# Altium integrated library Renesas Microprocessor SuperH.IntLib: 433 symbols (part 3 of 62)
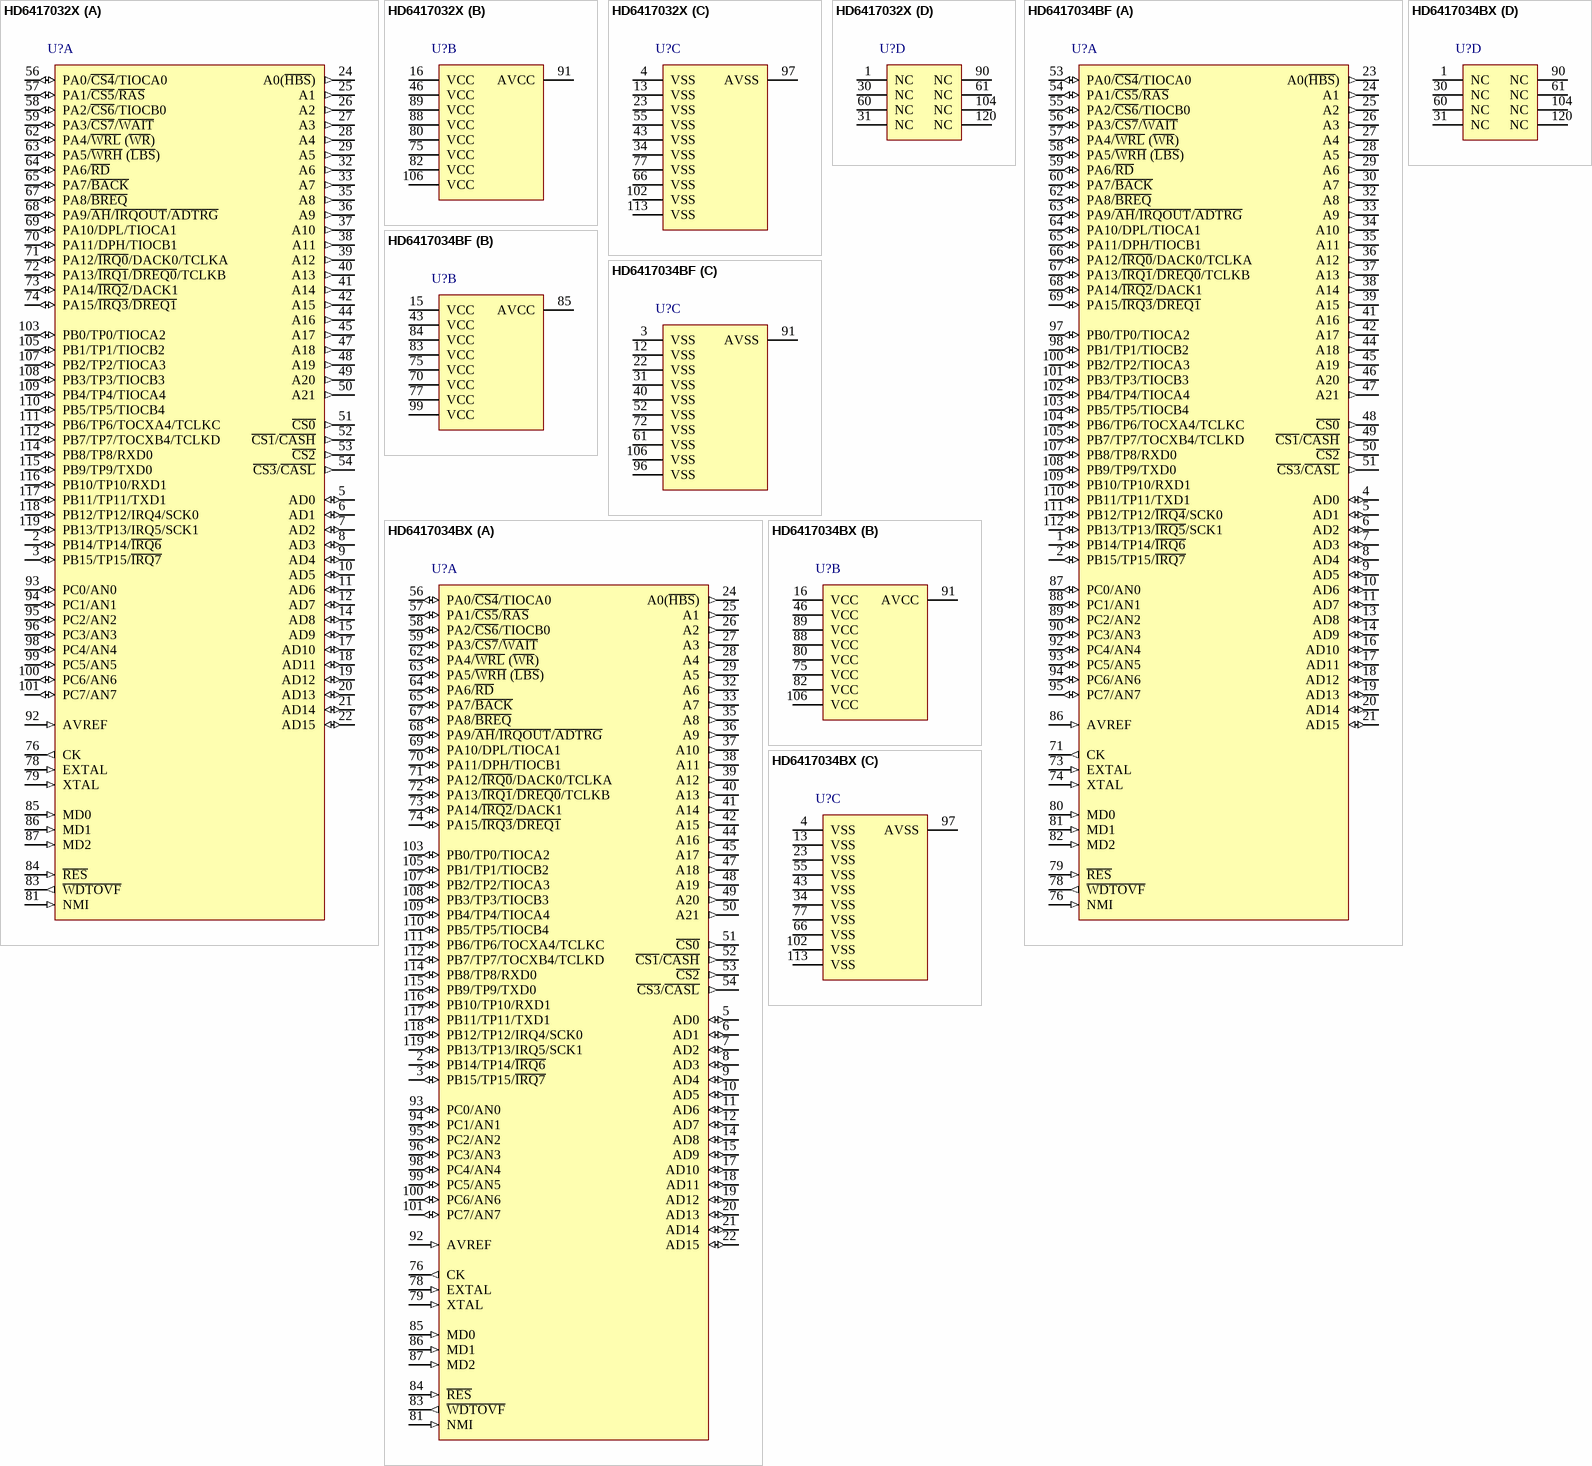
[diagram p280: symbols HD6417032X to HD6417034BX]

## HD6417034BX
designator U?
32-Bit RISC Microcomputer, SH7030 Series, SH-1 core, 20MHz, 4K RAM, PTQP0120LA-A (TFP-120) Package; Published: 28-Aug-2009; DatasheetVersion: Rev.7.00, Jan-2006; PackageVersion: Sep-2005; PackageReference: PTQP0120LA-A; Publisher: Altium Limited; PackageDescription: 120-Pin Plastic Thin QFP, 14 x 14 x 1.0 mm Body, 0.4 mm Pitch; Code_JEITA: P-TQFP120-14x14-0.40; ComponentLink1Description: Manufacturer Link; ComponentLink1URL: http://www.renesas.com/fmwk.jsp?cnt=sh7032_root.jsp&fp=/products/mpumcu/superh_family/sh7030_series/sh7032_group/; ComponentLink2Description: Datasheet; ComponentLink2URL: http://documentation.renesas.com/eng/products/mpumcu/rej09b0272_7032hm.pdf; ComponentLink3Description: Packaging Specification; ComponentLink3URL: http://sg.renesas.com/media/products/common_info/package/pdf/ic/code/ptqp0120la_a.pdf
footprint PTQP0120LA-A_N (Thin QFP, 120-Leads, Body 14x14mm, Pitch 0.4mm, IPC Medium Density)
footprint PTQP0120LA-A_L (Thin QFP, 120-Leads, Body 14x14mm, Pitch 0.4mm, IPC High Density)
footprint PTQP0120LA-A_M (Thin QFP, 120-Leads, Body 14x14mm, Pitch 0.4mm, IPC Low Density)
part A pins: 2 PB14/TP14/~{IRQ6} (io), 3 PB15/TP15/~{IRQ7} (io), 5 AD0 (io), 6 AD1 (io), 7 AD2 (io), 8 AD3 (io), 9 AD4 (io), 10 AD5 (io), 11 AD6 (io), 12 AD7 (io), 14 AD8 (io), 15 AD9 (io), 17 AD10 (io), 18 AD11 (io), 19 AD12 (io), 20 AD13 (io), 21 AD14 (io), 22 AD15 (io), 24 A0(~{HBS}) (out), 25 A1 (out), 26 A2 (out), 27 A3 (out), 28 A4 (out), 29 A5 (out), 32 A6 (out), 33 A7 (out), 35 A8 (out), 36 A9 (out), 37 A10 (out), 38 A11 (out), 39 A12 (out), 40 A13 (out), 41 A14 (out), 42 A15 (out), 44 A16 (out), 45 A17 (out), 47 A18 (out), 48 A19 (out), 49 A20 (out), 50 A21 (out), 51 ~{CS0} (out), 52 ~{CS1}/~{CASH} (out), 53 ~{CS2} (out), 54 ~{CS3}/~{CASL} (out), 56 PA0/~{CS4}/TIOCA0 (io), 57 PA1/~{CS5}/~{RAS} (io), 58 PA2/~{CS6}/TIOCB0 (io), 59 PA3/~{CS7}/~{WAIT} (io), 62 PA4/~{WRL} (~{WR}) (io), 63 PA5/~{WRH} (~{LBS}) (io), 64 PA6/~{RD} (io), 65 PA7/~{BACK} (io), 67 PA8/~{BREQ} (io), 68 PA9/~{AH}/~{IRQOUT}/~{ADTRG} (io), 69 PA10/DPL/TIOCA1 (io), 70 PA11/DPH/TIOCB1 (io), 71 PA12/~{IRQ0}/DACK0/TCLKA (io), 72 PA13/~{IRQ1}/~{DREQ0}/TCLKB (io), 73 PA14/~{IRQ2}/DACK1 (io), 74 PA15/~{IRQ3}/~{DREQ1} (io), 76 CK (out), 78 EXTAL (in), 79 XTAL (in), 81 NMI (in), 83 ~{WDTOVF} (out), 84 ~{RES} (in), 85 MD0 (in), 86 MD1 (in), 87 MD2 (in), 92 AVREF (in), 93 PC0/AN0 (io), 94 PC1/AN1 (io), 95 PC2/AN2 (io), 96 PC3/AN3 (io), 98 PC4/AN4 (io), 99 PC5/AN5 (io), 100 PC6/AN6 (io), 101 PC7/AN7 (io), 103 PB0/TP0/TIOCA2 (io), 105 PB1/TP1/TIOCB2 (io), 107 PB2/TP2/TIOCA3 (io), 108 PB3/TP3/TIOCB3 (io), 109 PB4/TP4/TIOCA4 (io), 110 PB5/TP5/TIOCB4 (io), 111 PB6/TP6/TOCXA4/TCLKC (io), 112 PB7/TP7/TOCXB4/TCLKD (io), 114 PB8/TP8/RXD0 (io), 115 PB9/TP9/TXD0 (io), 116 PB10/TP10/RXD1 (io), 117 PB11/TP11/TXD1 (io), 118 PB12/TP12/IRQ4/SCK0 (io), 119 PB13/TP13/IRQ5/SCK1 (io)
part B pins: 16 VCC (power), 46 VCC (power), 75 VCC (power), 80 VCC (power), 82 VCC (power), 88 VCC (power), 89 VCC (power), 91 AVCC (power), 106 VCC (power)
part C pins: 4 VSS (power), 13 VSS (power), 23 VSS (power), 34 VSS (power), 43 VSS (power), 55 VSS (power), 66 VSS (power), 77 VSS (power), 97 AVSS (power), 102 VSS (power), 113 VSS (power)
part D pins: 1 NC, 30 NC, 31 NC, 60 NC, 61 NC, 90 NC, 104 NC, 120 NC

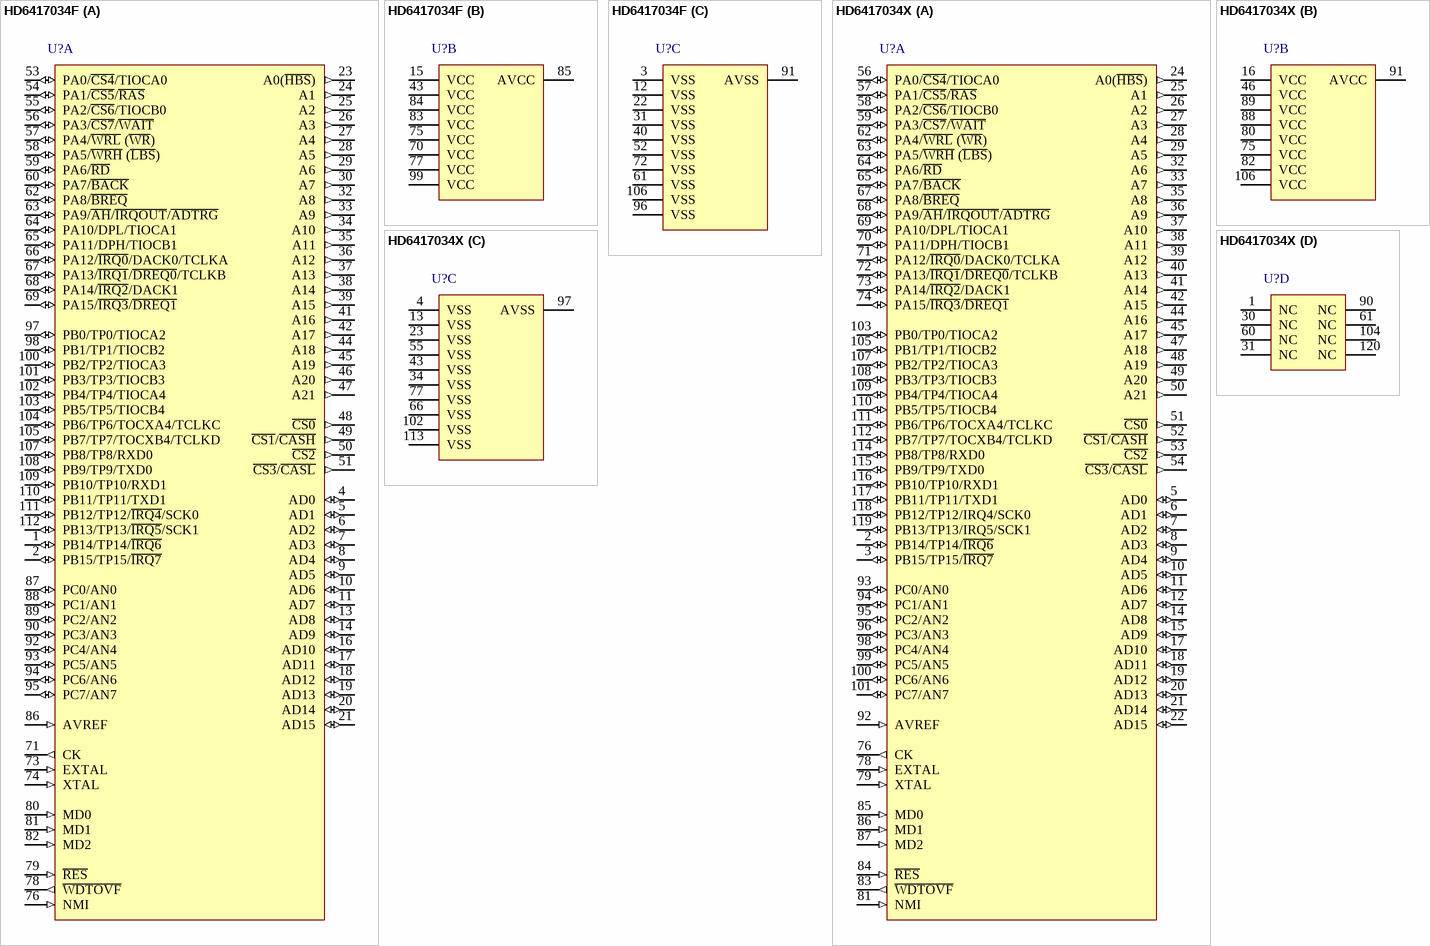
[diagram p7: symbols HD6417034F to HD6417034X]

## HD6417034F
designator U?
32-Bit RISC Microcomputer, SH7030 Series, SH-1 core, 20MHz, 4K RAM, PRQP0112JA-A (FP-112) Package; Published: 28-Aug-2009; DatasheetVersion: Rev.7.00, Jan-2006; PackageVersion: Sep-2005; PackageReference: PRQP0112JA-A; Publisher: Altium Limited; PackageDescription: 112-Pin Plastic Quad Flat Pack, 20 x 20 x 2.7 mm Body, 0.65 mm Pitch; Code_JEITA: P-QFP112-20x20-0.65; ComponentLink1Description: Manufacturer Link; ComponentLink1URL: http://www.renesas.com/fmwk.jsp?cnt=sh7032_root.jsp&fp=/products/mpumcu/superh_family/sh7030_series/sh7032_group/; ComponentLink2Description: Datasheet; ComponentLink2URL: http://documentation.renesas.com/eng/products/mpumcu/rej09b0272_7032hm.pdf; ComponentLink3Description: Packaging Specification; ComponentLink3URL: http://sg.renesas.com/media/products/common_info/package/pdf/ic/code/prqp0112ja_a.pdf
footprint PRQP0112JA-A_N (QFP, 112-Leads, Body 20x20mm, Pitch 0.65mm, IPC Medium Density)
footprint PRQP0112JA-A_L (QFP, 112-Leads, Body 20x20mm, Pitch 0.65mm, IPC High Density)
footprint PRQP0112JA-A_M (QFP, 112-Leads, Body 20x20mm, Pitch 0.65mm, IPC Low Density)
part A pins: 1 PB14/TP14/~{IRQ6} (io), 2 PB15/TP15/~{IRQ7} (io), 4 AD0 (io), 5 AD1 (io), 6 AD2 (io), 7 AD3 (io), 8 AD4 (io), 9 AD5 (io), 10 AD6 (io), 11 AD7 (io), 13 AD8 (io), 14 AD9 (io), 16 AD10 (io), 17 AD11 (io), 18 AD12 (io), 19 AD13 (io), 20 AD14 (io), 21 AD15 (io), 23 A0(~{HBS}) (out), 24 A1 (out), 25 A2 (out), 26 A3 (out), 27 A4 (out), 28 A5 (out), 29 A6 (out), 30 A7 (out), 32 A8 (out), 33 A9 (out), 34 A10 (out), 35 A11 (out), 36 A12 (out), 37 A13 (out), 38 A14 (out), 39 A15 (out), 41 A16 (out), 42 A17 (out), 44 A18 (out), 45 A19 (out), 46 A20 (out), 47 A21 (out), 48 ~{CS0} (out), 49 ~{CS1}/~{CASH} (out), 50 ~{CS2} (out), 51 ~{CS3}/~{CASL} (out), 53 PA0/~{CS4}/TIOCA0 (io), 54 PA1/~{CS5}/~{RAS} (io), 55 PA2/~{CS6}/TIOCB0 (io), 56 PA3/~{CS7}/~{WAIT} (io), 57 PA4/~{WRL} (~{WR}) (io), 58 PA5/~{WRH} (~{LBS}) (io), 59 PA6/~{RD} (io), 60 PA7/~{BACK} (io), 62 PA8/~{BREQ} (io), 63 PA9/~{AH}/~{IRQOUT}/~{ADTRG} (io), 64 PA10/DPL/TIOCA1 (io), 65 PA11/DPH/TIOCB1 (io), 66 PA12/~{IRQ0}/DACK0/TCLKA (io), 67 PA13/~{IRQ1}/~{DREQ0}/TCLKB (io), 68 PA14/~{IRQ2}/DACK1 (io), 69 PA15/~{IRQ3}/~{DREQ1} (io), 71 CK (out), 73 EXTAL (in), 74 XTAL (in), 76 NMI (in), 78 ~{WDTOVF} (out), 79 ~{RES} (in), 80 MD0 (in), 81 MD1 (in), 82 MD2 (in), 86 AVREF (in), 87 PC0/AN0 (io), 88 PC1/AN1 (io), 89 PC2/AN2 (io), 90 PC3/AN3 (io), 92 PC4/AN4 (io), 93 PC5/AN5 (io), 94 PC6/AN6 (io), 95 PC7/AN7 (io), 97 PB0/TP0/TIOCA2 (io), 98 PB1/TP1/TIOCB2 (io), 100 PB2/TP2/TIOCA3 (io), 101 PB3/TP3/TIOCB3 (io), 102 PB4/TP4/TIOCA4 (io), 103 PB5/TP5/TIOCB4 (io), 104 PB6/TP6/TOCXA4/TCLKC (io), 105 PB7/TP7/TOCXB4/TCLKD (io), 107 PB8/TP8/RXD0 (io), 108 PB9/TP9/TXD0 (io), 109 PB10/TP10/RXD1 (io), 110 PB11/TP11/TXD1 (io), 111 PB12/TP12/~{IRQ4}/SCK0 (io), 112 PB13/TP13/~{IRQ5}/SCK1 (io)
part B pins: 15 VCC (power), 43 VCC (power), 70 VCC (power), 75 VCC (power), 77 VCC (power), 83 VCC (power), 84 VCC (power), 85 AVCC (power), 99 VCC (power)
part C pins: 3 VSS (power), 12 VSS (power), 22 VSS (power), 31 VSS (power), 40 VSS (power), 52 VSS (power), 61 VSS (power), 72 VSS (power), 91 AVSS (power), 96 VSS (power), 106 VSS (power)

## HD6417034X
designator U?
32-Bit RISC Microcomputer, SH7030 Series, SH-1 core, 20MHz, 4K RAM, PTQP0120LA-A (TFP-120) Package; Published: 28-Aug-2009; DatasheetVersion: Rev.7.00, Jan-2006; PackageVersion: Sep-2005; PackageReference: PTQP0120LA-A; Publisher: Altium Limited; PackageDescription: 120-Pin Plastic Thin QFP, 14 x 14 x 1.0 mm Body, 0.4 mm Pitch; Code_JEITA: P-TQFP120-14x14-0.40; ComponentLink1Description: Manufacturer Link; ComponentLink1URL: http://www.renesas.com/fmwk.jsp?cnt=sh7032_root.jsp&fp=/products/mpumcu/superh_family/sh7030_series/sh7032_group/; ComponentLink2Description: Datasheet; ComponentLink2URL: http://documentation.renesas.com/eng/products/mpumcu/rej09b0272_7032hm.pdf; ComponentLink3Description: Packaging Specification; ComponentLink3URL: http://sg.renesas.com/media/products/common_info/package/pdf/ic/code/ptqp0120la_a.pdf
footprint PTQP0120LA-A_N (Thin QFP, 120-Leads, Body 14x14mm, Pitch 0.4mm, IPC Medium Density)
footprint PTQP0120LA-A_L (Thin QFP, 120-Leads, Body 14x14mm, Pitch 0.4mm, IPC High Density)
footprint PTQP0120LA-A_M (Thin QFP, 120-Leads, Body 14x14mm, Pitch 0.4mm, IPC Low Density)
part A pins: 2 PB14/TP14/~{IRQ6} (io), 3 PB15/TP15/~{IRQ7} (io), 5 AD0 (io), 6 AD1 (io), 7 AD2 (io), 8 AD3 (io), 9 AD4 (io), 10 AD5 (io), 11 AD6 (io), 12 AD7 (io), 14 AD8 (io), 15 AD9 (io), 17 AD10 (io), 18 AD11 (io), 19 AD12 (io), 20 AD13 (io), 21 AD14 (io), 22 AD15 (io), 24 A0(~{HBS}) (out), 25 A1 (out), 26 A2 (out), 27 A3 (out), 28 A4 (out), 29 A5 (out), 32 A6 (out), 33 A7 (out), 35 A8 (out), 36 A9 (out), 37 A10 (out), 38 A11 (out), 39 A12 (out), 40 A13 (out), 41 A14 (out), 42 A15 (out), 44 A16 (out), 45 A17 (out), 47 A18 (out), 48 A19 (out), 49 A20 (out), 50 A21 (out), 51 ~{CS0} (out), 52 ~{CS1}/~{CASH} (out), 53 ~{CS2} (out), 54 ~{CS3}/~{CASL} (out), 56 PA0/~{CS4}/TIOCA0 (io), 57 PA1/~{CS5}/~{RAS} (io), 58 PA2/~{CS6}/TIOCB0 (io), 59 PA3/~{CS7}/~{WAIT} (io), 62 PA4/~{WRL} (~{WR}) (io), 63 PA5/~{WRH} (~{LBS}) (io), 64 PA6/~{RD} (io), 65 PA7/~{BACK} (io), 67 PA8/~{BREQ} (io), 68 PA9/~{AH}/~{IRQOUT}/~{ADTRG} (io), 69 PA10/DPL/TIOCA1 (io), 70 PA11/DPH/TIOCB1 (io), 71 PA12/~{IRQ0}/DACK0/TCLKA (io), 72 PA13/~{IRQ1}/~{DREQ0}/TCLKB (io), 73 PA14/~{IRQ2}/DACK1 (io), 74 PA15/~{IRQ3}/~{DREQ1} (io), 76 CK (out), 78 EXTAL (in), 79 XTAL (in), 81 NMI (in), 83 ~{WDTOVF} (out), 84 ~{RES} (in), 85 MD0 (in), 86 MD1 (in), 87 MD2 (in), 92 AVREF (in), 93 PC0/AN0 (io), 94 PC1/AN1 (io), 95 PC2/AN2 (io), 96 PC3/AN3 (io), 98 PC4/AN4 (io), 99 PC5/AN5 (io), 100 PC6/AN6 (io), 101 PC7/AN7 (io), 103 PB0/TP0/TIOCA2 (io), 105 PB1/TP1/TIOCB2 (io), 107 PB2/TP2/TIOCA3 (io), 108 PB3/TP3/TIOCB3 (io), 109 PB4/TP4/TIOCA4 (io), 110 PB5/TP5/TIOCB4 (io), 111 PB6/TP6/TOCXA4/TCLKC (io), 112 PB7/TP7/TOCXB4/TCLKD (io), 114 PB8/TP8/RXD0 (io), 115 PB9/TP9/TXD0 (io), 116 PB10/TP10/RXD1 (io), 117 PB11/TP11/TXD1 (io), 118 PB12/TP12/IRQ4/SCK0 (io), 119 PB13/TP13/IRQ5/SCK1 (io)
part B pins: 16 VCC (power), 46 VCC (power), 75 VCC (power), 80 VCC (power), 82 VCC (power), 88 VCC (power), 89 VCC (power), 91 AVCC (power), 106 VCC (power)
part C pins: 4 VSS (power), 13 VSS (power), 23 VSS (power), 34 VSS (power), 43 VSS (power), 55 VSS (power), 66 VSS (power), 77 VSS (power), 97 AVSS (power), 102 VSS (power), 113 VSS (power)
part D pins: 1 NC, 30 NC, 31 NC, 60 NC, 61 NC, 90 NC, 104 NC, 120 NC

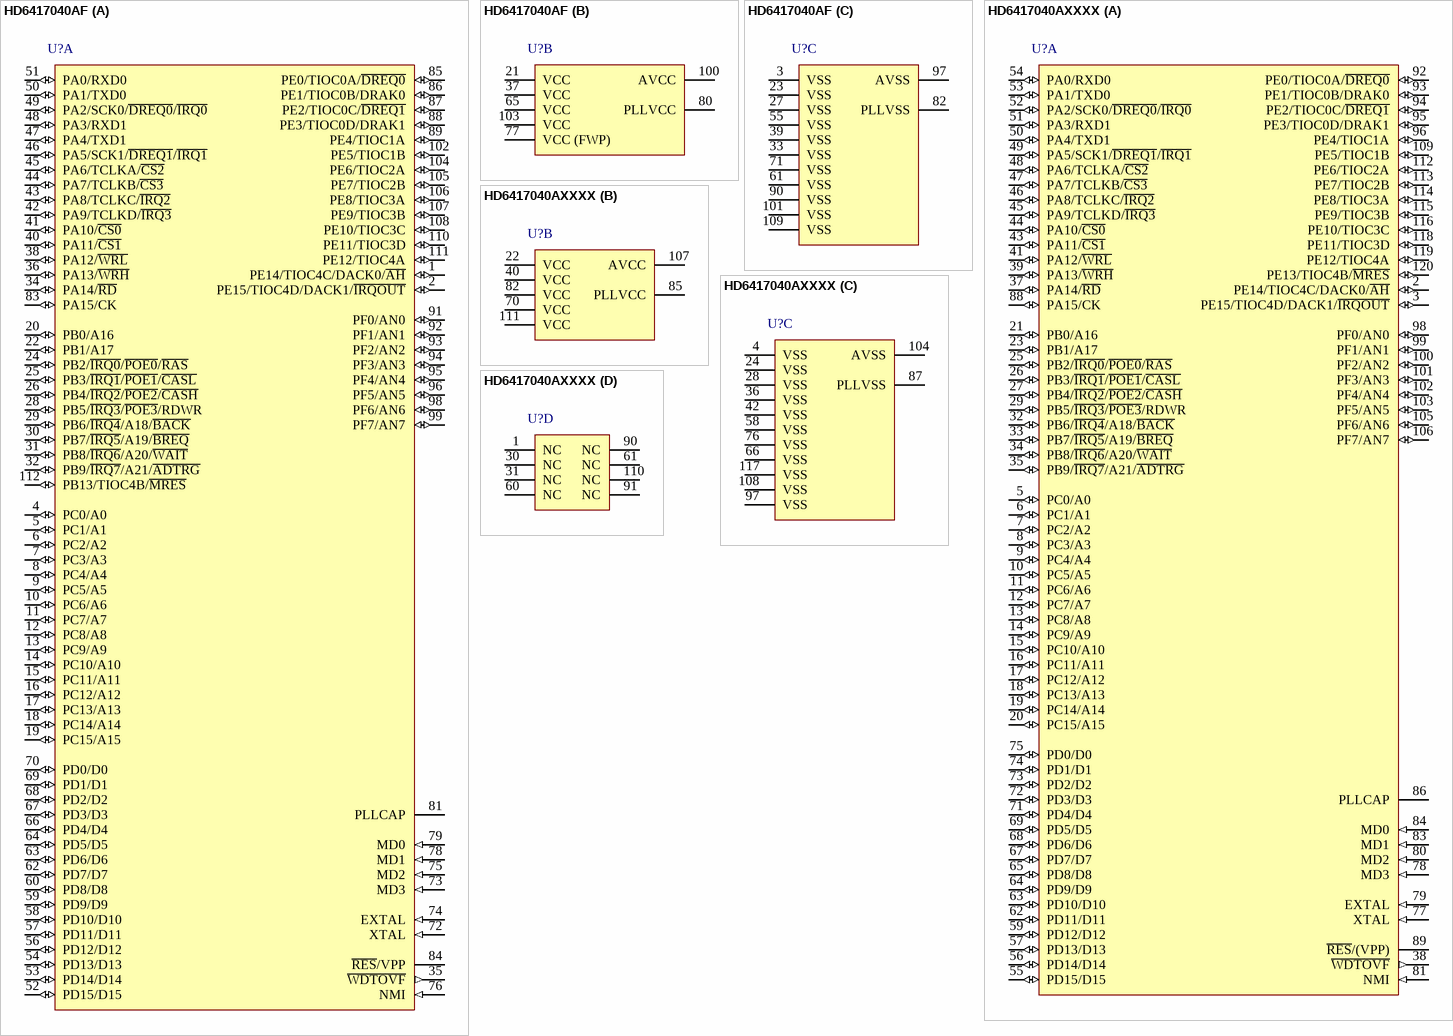
[diagram p8: symbols HD6417040AF to HD6417040AXXXX]

## HD6417040AF
designator U?
32-Bit RISC Microcomputer, SH7040 Series, SH-2 core, 28.7MHz, 4K(2K) RAM, PRQP0112JA-A (FP-112) Package; Published: 28-Aug-2009; DatasheetVersion: Rev.6.00, May-2003; PackageVersion: Sep-2005; PackageReference: PRQP0112JA-A; Publisher: Altium Limited; PackageDescription: 112-Pin Plastic Quad Flat Pack, 20 x 20 x 2.7 mm Body, 0.65 mm Pitch; Code_JEITA: P-QFP112-20x20-0.65; ComponentLink1Description: Manufacturer Link; ComponentLink1URL: http://www.renesas.com/fmwk.jsp?cnt=sh7040_root.jsp&fp=/products/mpumcu/superh_family/sh7040_series/sh7040_group/; ComponentLink2Description: Datasheet; ComponentLink2URL: http://documentation.renesas.com/eng/products/mpumcu/rej09b0044_sh7040.pdf; ComponentLink3Description: Packaging Specification; ComponentLink3URL: http://sg.renesas.com/media/products/common_info/package/pdf/ic/code/prqp0112ja_a.pdf
footprint PRQP0112JA-A_N (QFP, 112-Leads, Body 20x20mm, Pitch 0.65mm, IPC Medium Density)
footprint PRQP0112JA-A_L (QFP, 112-Leads, Body 20x20mm, Pitch 0.65mm, IPC High Density)
footprint PRQP0112JA-A_M (QFP, 112-Leads, Body 20x20mm, Pitch 0.65mm, IPC Low Density)
part A pins: 1 PE14/TIOC4C/DACK0/~{AH} (io), 2 PE15/TIOC4D/DACK1/~{IRQOUT} (io), 4 PC0/A0 (io), 5 PC1/A1 (io), 6 PC2/A2 (io), 7 PC3/A3 (io), 8 PC4/A4 (io), 9 PC5/A5 (io), 10 PC6/A6 (io), 11 PC7/A7 (io), 12 PC8/A8 (io), 13 PC9/A9 (io), 14 PC10/A10 (io), 15 PC11/A11 (io), 16 PC12/A12 (io), 17 PC13/A13 (io), 18 PC14/A14 (io), 19 PC15/A15 (io), 20 PB0/A16 (io), 22 PB1/A17 (io), 24 PB2/~{IRQ0}/~{POE0}/~{RAS} (io), 25 PB3/~{IRQ1}/~{POE1}/~{CASL} (io), 26 PB4/~{IRQ2}/~{POE2}/~{CASH} (io), 28 PB5/~{IRQ3}/~{POE3}/RDWR (io), 29 PB6/~{IRQ4}/A18/~{BACK} (io), 30 PB7/~{IRQ5}/A19/~{BREQ} (io), 31 PB8/~{IRQ6}/A20/~{WAIT} (io), 32 PB9/~{IRQ7}/A21/~{ADTRG} (io), 34 PA14/~{RD} (io), 35 ~{WDTOVF} (out), 36 PA13/~{WRH} (io), 38 PA12/~{WRL} (io), 40 PA11/~{CS1} (io), 41 PA10/~{CS0} (io), 42 PA9/TCLKD/~{IRQ3} (io), 43 PA8/TCLKC/~{IRQ2} (io), 44 PA7/TCLKB/~{CS3} (io), 45 PA6/TCLKA/~{CS2} (io), 46 PA5/SCK1/~{DREQ1}/~{IRQ1} (io), 47 PA4/TXD1 (io), 48 PA3/RXD1 (io), 49 PA2/SCK0/~{DREQ0}/~{IRQ0} (io), 50 PA1/TXD0 (io), 51 PA0/RXD0 (io), 52 PD15/D15 (io), 53 PD14/D14 (io), 54 PD13/D13 (io), 56 PD12/D12 (io), 57 PD11/D11 (io), 58 PD10/D10 (io), 59 PD9/D9 (io), 60 PD8/D8 (io), 62 PD7/D7 (io), 63 PD6/D6 (io), 64 PD5/D5 (io), 66 PD4/D4 (io), 67 PD3/D3 (io), 68 PD2/D2 (io), 69 PD1/D1 (io), 70 PD0/D0 (io), 72 XTAL (in), 73 MD3 (in), 74 EXTAL (in), 75 MD2 (in), 76 NMI (in), 78 MD1 (in), 79 MD0 (in), 81 PLLCAP, 83 PA15/CK (io), 84 ~{RES}/VPP, 85 PE0/TIOC0A/~{DREQ0} (io), 86 PE1/TIOC0B/DRAK0 (io), 87 PE2/TIOC0C/~{DREQ1} (io), 88 PE3/TIOC0D/DRAK1 (io), 89 PE4/TIOC1A (io), 91 PF0/AN0 (io), 92 PF1/AN1 (io), 93 PF2/AN2 (io), 94 PF3/AN3 (io), 95 PF4/AN4 (io), 96 PF5/AN5 (io), 98 PF6/AN6 (io), 99 PF7/AN7 (io), 102 PE5/TIOC1B (io), 104 PE6/TIOC2A (io), 105 PE7/TIOC2B (io), 106 PE8/TIOC3A (io), 107 PE9/TIOC3B (io), 108 PE10/TIOC3C (io), 110 PE11/TIOC3D (io), 111 PE12/TIOC4A (io), 112 PB13/TIOC4B/~{MRES} (io)
part B pins: 21 VCC (power), 37 VCC (power), 65 VCC (power), 77 VCC (FWP) (power), 80 PLLVCC (power), 100 AVCC (power), 103 VCC (power)
part C pins: 3 VSS (power), 23 VSS (power), 27 VSS (power), 33 VSS (power), 39 VSS (power), 55 VSS (power), 61 VSS (power), 71 VSS (power), 82 PLLVSS (power), 90 VSS (power), 97 AVSS (power), 101 VSS (power), 109 VSS (power)

## HD6417040AXXXX
designator U?
32-Bit RISC Microcomputer, SH7040 Series, SH-2 core, 16MHz, 4K(2K) RAM, PTQP0120LA-A (TFP-120) Package; Published: 28-Aug-2009; DatasheetVersion: Rev.6.00, May-2003; PackageVersion: Sep-2005; PackageReference: PTQP0120LA-A; Publisher: Altium Limited; PackageDescription: 120-Pin Plastic Thin QFP, 14 x 14 x 1.0 mm Body, 0.4 mm Pitch; Code_JEITA: P-TQFP120-14x14-0.40; ComponentLink1Description: Manufacturer Link; ComponentLink1URL: http://www.renesas.com/fmwk.jsp?cnt=sh7040_root.jsp&fp=/products/mpumcu/superh_family/sh7040_series/sh7040_group/; ComponentLink2Description: Datasheet; ComponentLink2URL: http://documentation.renesas.com/eng/products/mpumcu/rej09b0044_sh7040.pdf; ComponentLink3Description: Packaging Specification; ComponentLink3URL: http://sg.renesas.com/media/products/common_info/package/pdf/ic/code/ptqp0120la_a.pdf
footprint PTQP0120LA-A_N (Thin QFP, 120-Leads, Body 14x14mm, Pitch 0.4mm, IPC Medium Density)
footprint PTQP0120LA-A_L (Thin QFP, 120-Leads, Body 14x14mm, Pitch 0.4mm, IPC High Density)
footprint PTQP0120LA-A_M (Thin QFP, 120-Leads, Body 14x14mm, Pitch 0.4mm, IPC Low Density)
part A pins: 2 PE14/TIOC4C/DACK0/~{AH} (io), 3 PE15/TIOC4D/DACK1/~{IRQOUT} (io), 5 PC0/A0 (io), 6 PC1/A1 (io), 7 PC2/A2 (io), 8 PC3/A3 (io), 9 PC4/A4 (io), 10 PC5/A5 (io), 11 PC6/A6 (io), 12 PC7/A7 (io), 13 PC8/A8 (io), 14 PC9/A9 (io), 15 PC10/A10 (io), 16 PC11/A11 (io), 17 PC12/A12 (io), 18 PC13/A13 (io), 19 PC14/A14 (io), 20 PC15/A15 (io), 21 PB0/A16 (io), 23 PB1/A17 (io), 25 PB2/~{IRQ0}/~{POE0}/~{RAS} (io), 26 PB3/~{IRQ1}/~{POE1}/~{CASL} (io), 27 PB4/~{IRQ2}/~{POE2}/~{CASH} (io), 29 PB5/~{IRQ3}/~{POE3}/RDWR (io), 32 PB6/~{IRQ4}/A18/~{BACK} (io), 33 PB7/~{IRQ5}/A19/~{BREQ} (io), 34 PB8/~{IRQ6}/A20/~{WAIT} (io), 35 PB9/~{IRQ7}/A21/~{ADTRG} (io), 37 PA14/~{RD} (io), 38 ~{WDTOVF} (out), 39 PA13/~{WRH} (io), 41 PA12/~{WRL} (io), 43 PA11/~{CS1} (io), 44 PA10/~{CS0} (io), 45 PA9/TCLKD/~{IRQ3} (io), 46 PA8/TCLKC/~{IRQ2} (io), 47 PA7/TCLKB/~{CS3} (io), 48 PA6/TCLKA/~{CS2} (io), 49 PA5/SCK1/~{DREQ1}/~{IRQ1} (io), 50 PA4/TXD1 (io), 51 PA3/RXD1 (io), 52 PA2/SCK0/~{DREQ0}/~{IRQ0} (io), 53 PA1/TXD0 (io), 54 PA0/RXD0 (io), 55 PD15/D15 (io), 56 PD14/D14 (io), 57 PD13/D13 (io), 59 PD12/D12 (io), 62 PD11/D11 (io), 63 PD10/D10 (io), 64 PD9/D9 (io), 65 PD8/D8 (io), 67 PD7/D7 (io), 68 PD6/D6 (io), 69 PD5/D5 (io), 71 PD4/D4 (io), 72 PD3/D3 (io), 73 PD2/D2 (io), 74 PD1/D1 (io), 75 PD0/D0 (io), 77 XTAL (in), 78 MD3 (in), 79 EXTAL (in), 80 MD2 (in), 81 NMI (in), 83 MD1 (in), 84 MD0 (in), 86 PLLCAP, 88 PA15/CK (io), 89 ~{RES}/(VPP), 92 PE0/TIOC0A/~{DREQ0} (io), 93 PE1/TIOC0B/DRAK0 (io), 94 PE2/TIOC0C/~{DREQ1} (io), 95 PE3/TIOC0D/DRAK1 (io), 96 PE4/TIOC1A (io), 98 PF0/AN0 (io), 99 PF1/AN1 (io), 100 PF2/AN2 (io), 101 PF3/AN3 (io), 102 PF4/AN4 (io), 103 PF5/AN5 (io), 105 PF6/AN6 (io), 106 PF7/AN7 (io), 109 PE5/TIOC1B (io), 112 PE6/TIOC2A (io), 113 PE7/TIOC2B (io), 114 PE8/TIOC3A (io), 115 PE9/TIOC3B (io), 116 PE10/TIOC3C (io), 118 PE11/TIOC3D (io), 119 PE12/TIOC4A (io), 120 PE13/TIOC4B/~{MRES} (io)
part B pins: 22 VCC (power), 40 VCC (power), 70 VCC (power), 82 VCC (power), 85 PLLVCC (power), 107 AVCC (power), 111 VCC (power)
part C pins: 4 VSS (power), 24 VSS (power), 28 VSS (power), 36 VSS (power), 42 VSS (power), 58 VSS (power), 66 VSS (power), 76 VSS (power), 87 PLLVSS (power), 97 VSS (power), 104 AVSS (power), 108 VSS (power), 117 VSS (power)
part D pins: 1 NC, 30 NC, 31 NC, 60 NC, 61 NC, 90 NC, 91 NC, 110 NC

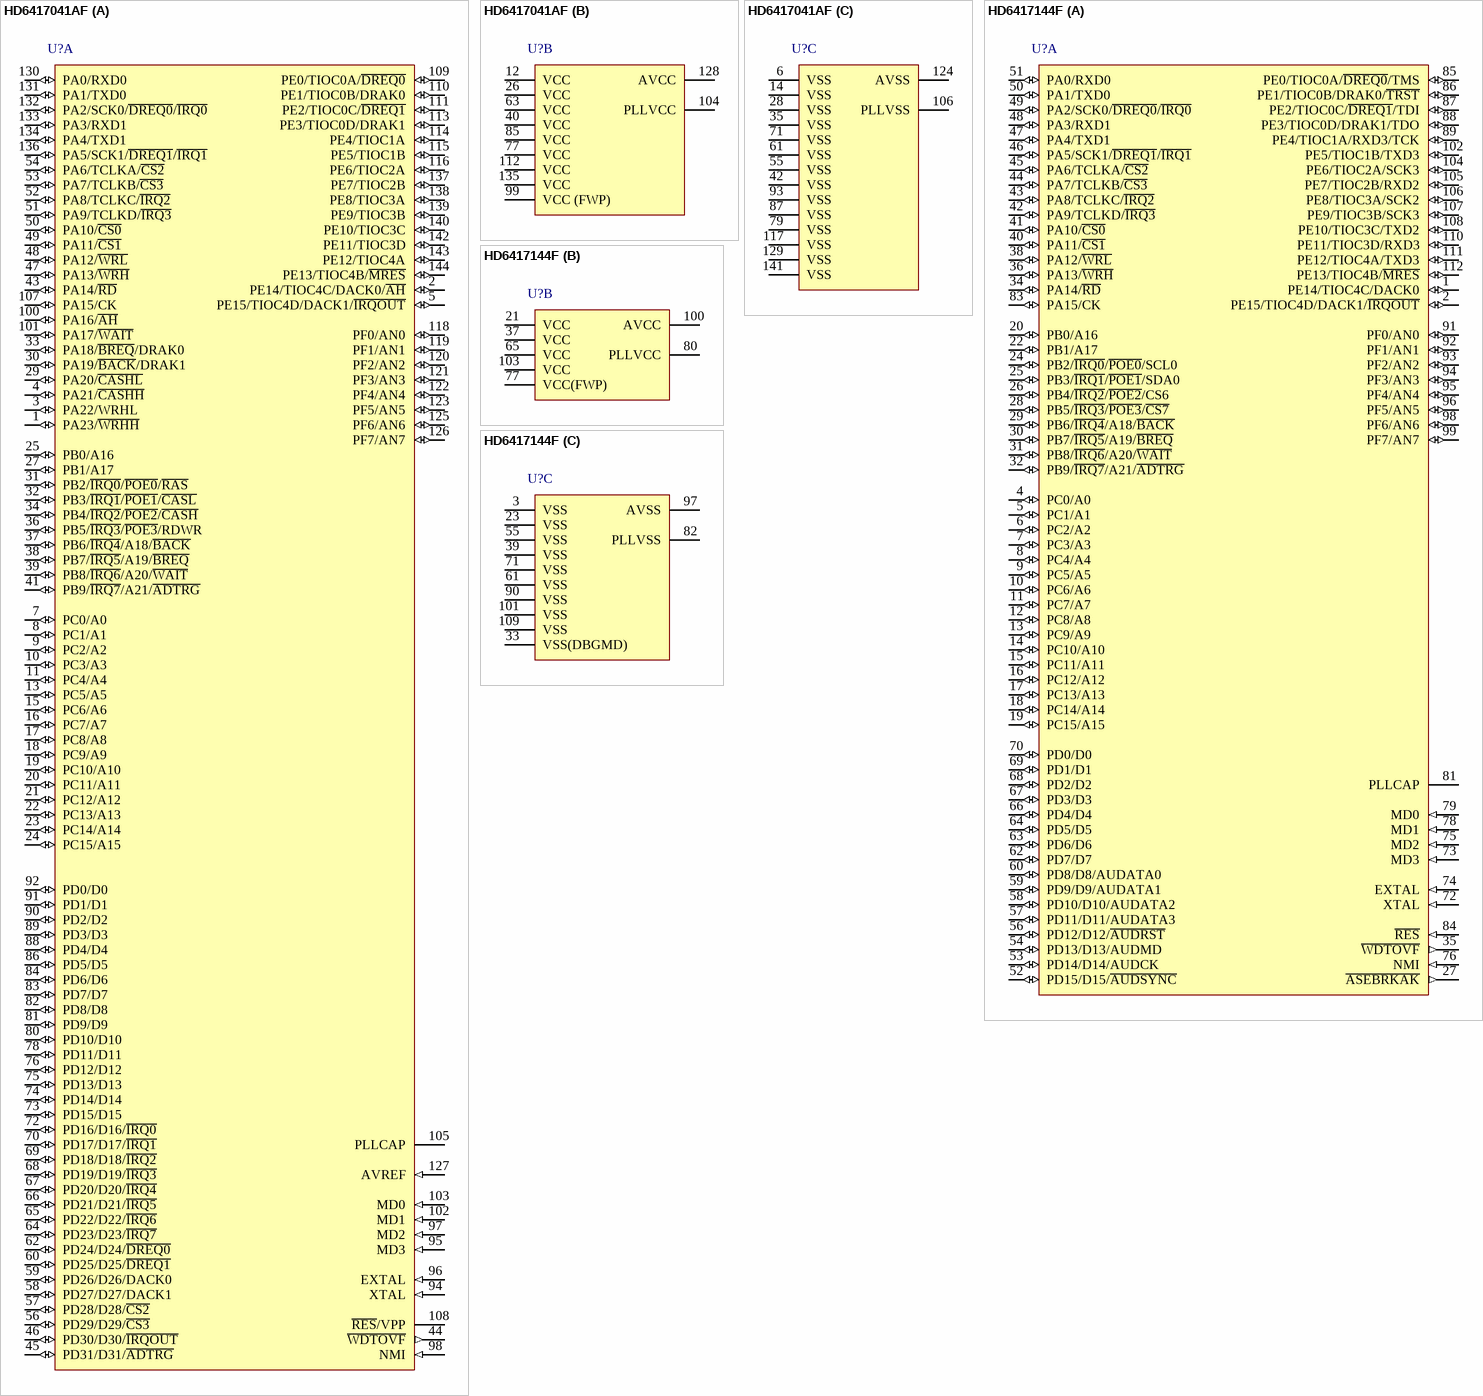
[diagram p9: symbols HD6417041AF to HD6417144F]

## HD6417041AF
designator U?
32-Bit RISC Microcomputer, SH7040 Series, SH-2 core, 28.7MHz, 4K(2K) RAM, FP-144 Package; Published: 28-Aug-2009; DatasheetVersion: Rev.6.00, May-2003; PackageVersion: Sep-2005; PackageReference: PRQP0144KB-A; Publisher: Altium Limited; PackageDescription: 144-Pin Plastic Quad Flat Pack, 20 x 20 x 2.7 mm Body, 0.5 mm Pitch; Code_JEITA: P-QFP144-20x20-0.50; ComponentLink1Description: Manufacturer Link; ComponentLink1URL: http://www.renesas.com/fmwk.jsp?cnt=sh7040_root.jsp&fp=/products/mpumcu/superh_family/sh7040_series/sh7040_group/; ComponentLink2Description: Datasheet; ComponentLink2URL: http://documentation.renesas.com/eng/products/mpumcu/rej09b0044_sh7040.pdf; ComponentLink3Description: Packaging Specification; ComponentLink3URL: http://sg.renesas.com/media/products/common_info/package/pdf/ic/code/prqp0144kb_a.pdf
footprint PRQP0144KB-A_N (Shrink QFP, 144-Leads, Body 20x20mm, Pitch 0.5mm, IPC Medium Density)
footprint PRQP0144KB-A_L (Shrink QFP, 144-Leads, Body 20x20mm, Pitch 0.5mm, IPC High Density)
footprint PRQP0144KB-A_M (Shrink QFP, 144-Leads, Body 20x20mm, Pitch 0.5mm, IPC Low Density)
part A pins: 1 PA23/~{WRHH} (io), 2 PE14/TIOC4C/DACK0/~{AH} (io), 3 PA22/WRHL (io), 4 PA21/~{CASHH} (io), 5 PE15/TIOC4D/DACK1/~{IRQOUT} (io), 7 PC0/A0 (io), 8 PC1/A1 (io), 9 PC2/A2 (io), 10 PC3/A3 (io), 11 PC4/A4 (io), 13 PC5/A5 (io), 15 PC6/A6 (io), 16 PC7/A7 (io), 17 PC8/A8 (io), 18 PC9/A9 (io), 19 PC10/A10 (io), 20 PC11/A11 (io), 21 PC12/A12 (io), 22 PC13/A13 (io), 23 PC14/A14 (io), 24 PC15/A15 (io), 25 PB0/A16 (io), 27 PB1/A17 (io), 29 PA20/~{CASHL} (io), 30 PA19/~{BACK}/DRAK1 (io), 31 PB2/~{IRQ0}/~{POE0}/~{RAS} (io), 32 PB3/~{IRQ1}/~{POE1}/~{CASL} (io), 33 PA18/~{BREQ}/DRAK0 (io), 34 PB4/~{IRQ2}/~{POE2}/~{CASH} (io), 36 PB5/~{IRQ3}/~{POE3}/RDWR (io), 37 PB6/~{IRQ4}/A18/~{BACK} (io), 38 PB7/~{IRQ5}/A19/~{BREQ} (io), 39 PB8/~{IRQ6}/A20/~{WAIT} (io), 41 PB9/~{IRQ7}/A21/~{ADTRG} (io), 43 PA14/~{RD} (io), 44 ~{WDTOVF} (out), 45 PD31/D31/~{ADTRG} (io), 46 PD30/D30/~{IRQOUT} (io), 47 PA13/~{WRH} (io), 48 PA12/~{WRL} (io), 49 PA11/~{CS1} (io), 50 PA10/~{CS0} (io), 51 PA9/TCLKD/~{IRQ3} (io), 52 PA8/TCLKC/~{IRQ2} (io), 53 PA7/TCLKB/~{CS3} (io), 54 PA6/TCLKA/~{CS2} (io), 56 PD29/D29/~{CS3} (io), 57 PD28/D28/~{CS2} (io), 58 PD27/D27/DACK1 (io), 59 PD26/D26/DACK0 (io), 60 PD25/D25/~{DREQ1} (io), 62 PD24/D24/~{DREQ0} (io), 64 PD23/D23/~{IRQ7} (io), 65 PD22/D22/~{IRQ6} (io), 66 PD21/D21/~{IRQ5} (io), 67 PD20/D20/~{IRQ4} (io), 68 PD19/D19/~{IRQ3} (io), 69 PD18/D18/~{IRQ2} (io), 70 PD17/D17/~{IRQ1} (io), 72 PD16/D16/~{IRQ0} (io), 73 PD15/D15 (io), 74 PD14/D14 (io), 75 PD13/D13 (io), 76 PD12/D12 (io), 78 PD11/D11 (io), 80 PD10/D10 (io), 81 PD9/D9 (io), 82 PD8/D8 (io), 83 PD7/D7 (io), 84 PD6/D6 (io), 86 PD5/D5 (io), 88 PD4/D4 (io), 89 PD3/D3 (io), 90 PD2/D2 (io), 91 PD1/D1 (io), 92 PD0/D0 (io), 94 XTAL (in), 95 MD3 (in), 96 EXTAL (in), 97 MD2 (in), 98 NMI (in), 100 PA16/~{AH} (io), 101 PA17/~{WAIT} (io), 102 MD1 (in), 103 MD0 (in), 105 PLLCAP, 107 PA15/CK (io), 108 ~{RES}/VPP, 109 PE0/TIOC0A/~{DREQ0} (io), 110 PE1/TIOC0B/DRAK0 (io), 111 PE2/TIOC0C/~{DREQ1} (io), 113 PE3/TIOC0D/DRAK1 (io), 114 PE4/TIOC1A (io), 115 PE5/TIOC1B (io), 116 PE6/TIOC2A (io), 118 PF0/AN0 (io), 119 PF1/AN1 (io), 120 PF2/AN2 (io), 121 PF3/AN3 (io), 122 PF4/AN4 (io), 123 PF5/AN5 (io), 125 PF6/AN6 (io), 126 PF7/AN7 (io), 127 AVREF (in), 130 PA0/RXD0 (io), 131 PA1/TXD0 (io), 132 PA2/SCK0/~{DREQ0}/~{IRQ0} (io), 133 PA3/RXD1 (io), 134 PA4/TXD1 (io), 136 PA5/SCK1/~{DREQ1}/~{IRQ1} (io), 137 PE7/TIOC2B (io), 138 PE8/TIOC3A (io), 139 PE9/TIOC3B (io), 140 PE10/TIOC3C (io), 142 PE11/TIOC3D (io), 143 PE12/TIOC4A (io), 144 PE13/TIOC4B/~{MRES} (io)
part B pins: 12 VCC (power), 26 VCC (power), 40 VCC (power), 63 VCC (power), 77 VCC (power), 85 VCC (power), 99 VCC (FWP) (power), 104 PLLVCC (power), 112 VCC (power), 128 AVCC (power), 135 VCC (power)
part C pins: 6 VSS (power), 14 VSS (power), 28 VSS (power), 35 VSS (power), 42 VSS (power), 55 VSS (power), 61 VSS (power), 71 VSS (power), 79 VSS (power), 87 VSS (power), 93 VSS (power), 106 PLLVSS (power), 117 VSS (power), 124 AVSS (power), 129 VSS (power), 141 VSS (power)

## HD6417144F
designator U?
32-Bit RISC Microcomputer, SH7144 Series, SH-2 core, 50MHz, 8K RAM, PRQP0112JB-A (FP-112B) Package, -20 to 75/-40 to 85°C; Published: 28-Aug-2009; DatasheetVersion: Rev.4.00, Mar-2008; PackageVersion: Sep-2005; PackageReference: PRQP0112JB-A; Publisher: Altium Limited; PackageDescription: 112-Pin Plastic Quad Flat Pack, 20 x 20 x 2.7 mm Body, 0.65 mm Pitch; Code_JEITA: P-QFP112-20x20-0.65; ComponentLink1Description: Manufacturer Link; ComponentLink1URL: http://www.renesas.com/fmwk.jsp?cnt=sh7144_root.jsp&fp=/products/mpumcu/superh_family/sh7144_series/sh7144_group/; ComponentLink2Description: Datasheet; ComponentLink2URL: http://documentation.renesas.com/eng/products/mpumcu/rej09b0108_sh7144.pdf; ComponentLink3Description: Packaging Specification; ComponentLink3URL: http://sg.renesas.com/media/products/common_info/package/pdf/ic/code/prqp0112jb_a.pdf
footprint PRQP0112JB-A_N (QFP, 112-Leads, Body 20x20mm, Pitch 0.65mm, IPC Medium Density)
footprint PRQP0112JB-A_L (QFP, 112-Leads, Body 20x20mm, Pitch 0.65mm, IPC High Density)
footprint PRQP0112JB-A_M (QFP, 112-Leads, Body 20x20mm, Pitch 0.65mm, IPC Low Density)
part A pins: 1 PE14/TIOC4C/DACK0 (io), 2 PE15/TIOC4D/DACK1/~{IRQOUT} (io), 4 PC0/A0 (io), 5 PC1/A1 (io), 6 PC2/A2 (io), 7 PC3/A3 (io), 8 PC4/A4 (io), 9 PC5/A5 (io), 10 PC6/A6 (io), 11 PC7/A7 (io), 12 PC8/A8 (io), 13 PC9/A9 (io), 14 PC10/A10 (io), 15 PC11/A11 (io), 16 PC12/A12 (io), 17 PC13/A13 (io), 18 PC14/A14 (io), 19 PC15/A15 (io), 20 PB0/A16 (io), 22 PB1/A17 (io), 24 PB2/~{IRQ0}/~{POE0}/SCL0 (io), 25 PB3/~{IRQ1}/~{POE1}/SDA0 (io), 26 PB4/~{IRQ2}/~{POE2}/CS6 (io), 27 ~{ASEBRKAK} (out), 28 PB5/~{IRQ3}/~{POE3}/~{CS7} (io), 29 PB6/~{IRQ4}/A18/~{BACK} (io), 30 PB7/~{IRQ5}/A19/~{BREQ} (io), 31 PB8/~{IRQ6}/A20/~{WAIT} (io), 32 PB9/~{IRQ7}/A21/~{ADTRG} (io), 34 PA14/~{RD} (io), 35 ~{WDTOVF} (out), 36 PA13/~{WRH} (io), 38 PA12/~{WRL} (io), 40 PA11/~{CS1} (io), 41 PA10/~{CS0} (io), 42 PA9/TCLKD/~{IRQ3} (io), 43 PA8/TCLKC/~{IRQ2} (io), 44 PA7/TCLKB/~{CS3} (io), 45 PA6/TCLKA/~{CS2} (io), 46 PA5/SCK1/~{DREQ1}/~{IRQ1} (io), 47 PA4/TXD1 (io), 48 PA3/RXD1 (io), 49 PA2/SCK0/~{DREQ0}/~{IRQ0} (io), 50 PA1/TXD0 (io), 51 PA0/RXD0 (io), 52 PD15/D15/~{AUDSYNC} (io), 53 PD14/D14/AUDCK (io), 54 PD13/D13/AUDMD (io), 56 PD12/D12/~{AUDRST} (io), 57 PD11/D11/AUDATA3 (io), 58 PD10/D10/AUDATA2 (io), 59 PD9/D9/AUDATA1 (io), 60 PD8/D8/AUDATA0 (io), 62 PD7/D7 (io), 63 PD6/D6 (io), 64 PD5/D5 (io), 66 PD4/D4 (io), 67 PD3/D3 (io), 68 PD2/D2 (io), 69 PD1/D1 (io), 70 PD0/D0 (io), 72 XTAL (in), 73 MD3 (in), 74 EXTAL (in), 75 MD2 (in), 76 NMI (in), 78 MD1 (in), 79 MD0 (in), 81 PLLCAP, 83 PA15/CK (io), 84 ~{RES} (in), 85 PE0/TIOC0A/~{DREQ0}/TMS (io), 86 PE1/TIOC0B/DRAK0/~{TRST} (io), 87 PE2/TIOC0C/~{DREQ1}/TDI (io), 88 PE3/TIOC0D/DRAK1/TDO (io), 89 PE4/TIOC1A/RXD3/TCK (io), 91 PF0/AN0 (io), 92 PF1/AN1 (io), 93 PF2/AN2 (io), 94 PF3/AN3 (io), 95 PF4/AN4 (io), 96 PF5/AN5 (io), 98 PF6/AN6 (io), 99 PF7/AN7 (io), 102 PE5/TIOC1B/TXD3 (io), 104 PE6/TIOC2A/SCK3 (io), 105 PE7/TIOC2B/RXD2 (io), 106 PE8/TIOC3A/SCK2 (io), 107 PE9/TIOC3B/SCK3 (io), 108 PE10/TIOC3C/TXD2 (io), 110 PE11/TIOC3D/RXD3 (io), 111 PE12/TIOC4A/TXD3 (io), 112 PE13/TIOC4B/~{MRES} (io)
part B pins: 21 VCC (power), 37 VCC (power), 65 VCC (power), 77 VCC(FWP) (power), 80 PLLVCC (power), 100 AVCC (power), 103 VCC (power)
part C pins: 3 VSS (power), 23 VSS (power), 33 VSS(DBGMD) (power), 39 VSS (power), 55 VSS (power), 61 VSS (power), 71 VSS (power), 82 PLLVSS (power), 90 VSS (power), 97 AVSS (power), 101 VSS (power), 109 VSS (power)

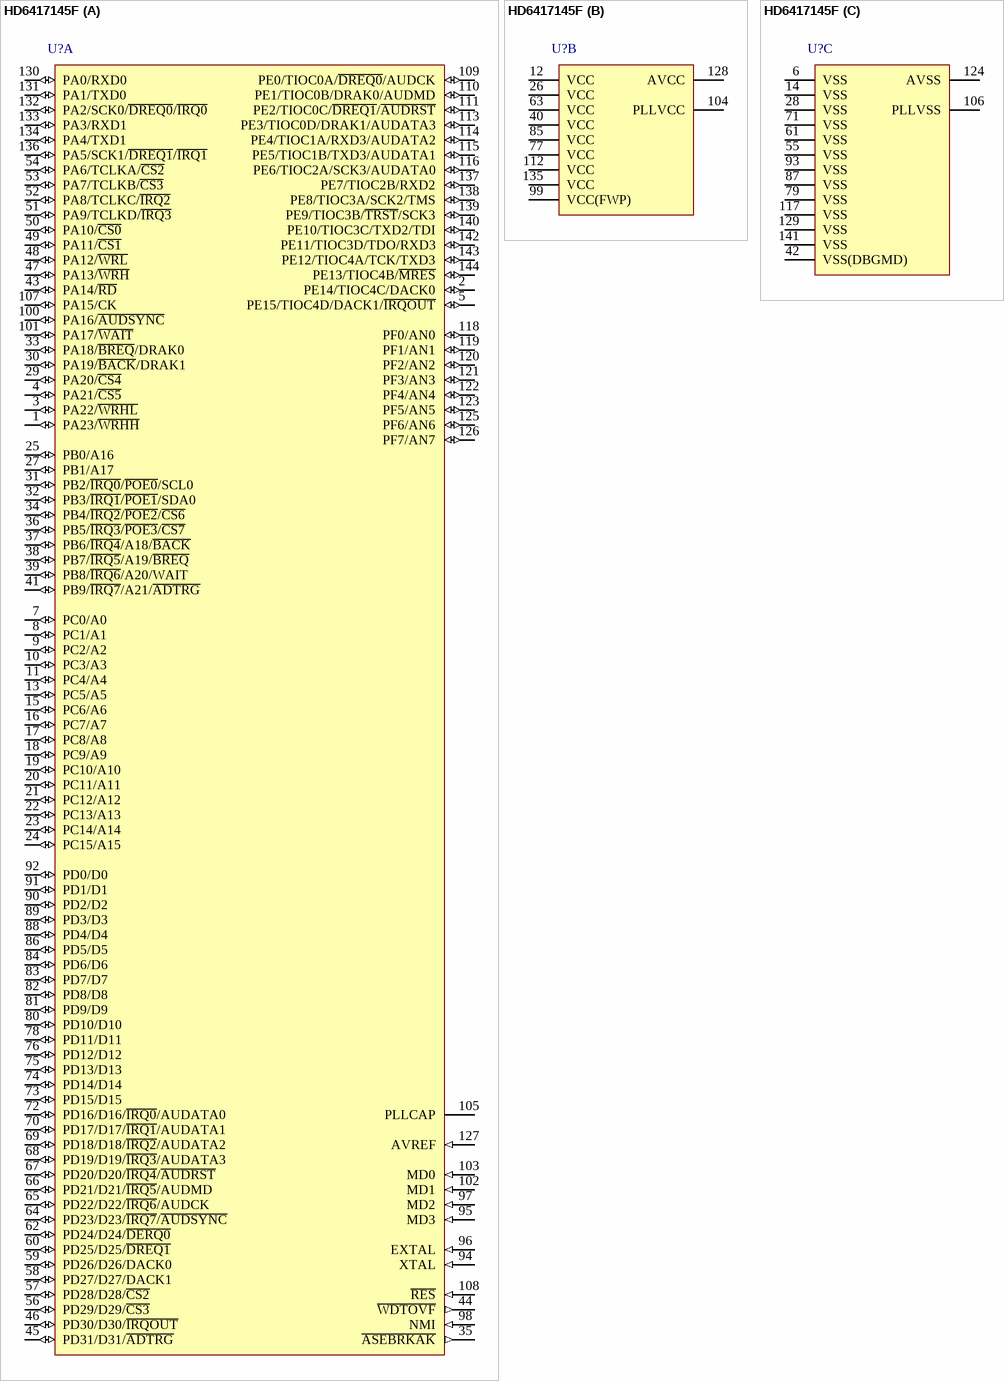
[diagram p10: symbol HD6417145F]

## HD6417145F
designator U?
32-Bit RISC Microcomputer, SH7144 Series, SH-2 core, 50MHz, 8K RAM, PLQP0144KB-A (FP-144F) Package, -20 to 75/-40 to 85°C; Published: 28-Aug-2009; DatasheetVersion: Rev.4.00, Mar-2008; PackageVersion: Sep-2005; PackageReference: PLQP0144KB-A; Publisher: Altium Limited; PackageDescription: 144-Pin Plastic Low Profile QFP, 20 x 20 x 1.4 mm Body, 0.5 mm Pitch; Code_JEITA: P-LQFP144-20x20-0.50; Code_IPC: SQFP50P2200X2200-144; ComponentLink1Description: Manufacturer Link; ComponentLink1URL: http://www.renesas.com/fmwk.jsp?cnt=sh7144_root.jsp&fp=/products/mpumcu/superh_family/sh7144_series/sh7144_group/; ComponentLink2Description: Datasheet; ComponentLink2URL: http://documentation.renesas.com/eng/products/mpumcu/rej09b0108_sh7144.pdf; ComponentLink3Description: Packaging Specification; ComponentLink3URL: http://sg.renesas.com/media/products/common_info/package/pdf/ic/code/plqp0144kb_a.pdf
footprint PLQP0144KB-A_N (Shrink QFP, 144-Leads, Body 20x20mm, Pitch 0.5mm, IPC Medium Density)
footprint PLQP0144KB-A_L (Shrink QFP, 144-Leads, Body 20x20mm, Pitch 0.5mm, IPC High Density)
footprint PLQP0144KB-A_M (Shrink QFP, 144-Leads, Body 20x20mm, Pitch 0.5mm, IPC Low Density)
part A pins: 1 PA23/~{WRHH} (io), 2 PE14/TIOC4C/DACK0 (io), 3 PA22/~{WRHL} (io), 4 PA21/~{CS5} (io), 5 PE15/TIOC4D/DACK1/~{IRQOUT} (io), 7 PC0/A0 (io), 8 PC1/A1 (io), 9 PC2/A2 (io), 10 PC3/A3 (io), 11 PC4/A4 (io), 13 PC5/A5 (io), 15 PC6/A6 (io), 16 PC7/A7 (io), 17 PC8/A8 (io), 18 PC9/A9 (io), 19 PC10/A10 (io), 20 PC11/A11 (io), 21 PC12/A12 (io), 22 PC13/A13 (io), 23 PC14/A14 (io), 24 PC15/A15 (io), 25 PB0/A16 (io), 27 PB1/A17 (io), 29 PA20/~{CS4} (io), 30 PA19/~{BACK}/DRAK1 (io), 31 PB2/~{IRQ0}/~{POE0}/SCL0 (io), 32 PB3/~{IRQ1}/~{POE1}/SDA0 (io), 33 PA18/~{BREQ}/DRAK0 (io), 34 PB4/~{IRQ2}/~{POE2}/~{CS6} (io), 35 ~{ASEBRKAK} (out), 36 PB5/~{IRQ3}/~{POE3}/~{CS7} (io), 37 PB6/~{IRQ4}/A18/~{BACK} (io), 38 PB7/~{IRQ5}/A19/~{BREQ} (io), 39 PB8/~{IRQ6}/A20/WAIT (io), 41 PB9/~{IRQ7}/A21/~{ADTRG} (io), 43 PA14/~{RD} (io), 44 ~{WDTOVF} (out), 45 PD31/D31/~{ADTRG} (io), 46 PD30/D30/~{IRQOUT} (io), 47 PA13/~{WRH} (io), 48 PA12/~{WRL} (io), 49 PA11/~{CS1} (io), 50 PA10/~{CS0} (io), 51 PA9/TCLKD/~{IRQ3} (io), 52 PA8/TCLKC/~{IRQ2} (io), 53 PA7/TCLKB/~{CS3} (io), 54 PA6/TCLKA/~{CS2} (io), 56 PD29/D29/~{CS3} (io), 57 PD28/D28/~{CS2} (io), 58 PD27/D27/DACK1 (io), 59 PD26/D26/DACK0 (io), 60 PD25/D25/~{DREQ1} (io), 62 PD24/D24/~{DERQ0} (io), 64 PD23/D23/~{IRQ7}/~{AUDSYNC} (io), 65 PD22/D22/~{IRQ6}/AUDCK (io), 66 PD21/D21/~{IRQ5}/AUDMD (io), 67 PD20/D20/~{IRQ4}/~{AUDRST} (io), 68 PD19/D19/~{IRQ3}/AUDATA3 (io), 69 PD18/D18/~{IRQ2}/AUDATA2 (io), 70 PD17/D17/~{IRQ1}/AUDATA1 (io), 72 PD16/D16/~{IRQ0}/AUDATA0 (io), 73 PD15/D15 (io), 74 PD14/D14 (io), 75 PD13/D13 (io), 76 PD12/D12 (io), 78 PD11/D11 (io), 80 PD10/D10 (io), 81 PD9/D9 (io), 82 PD8/D8 (io), 83 PD7/D7 (io), 84 PD6/D6 (io), 86 PD5/D5 (io), 88 PD4/D4 (io), 89 PD3/D3 (io), 90 PD2/D2 (io), 91 PD1/D1 (io), 92 PD0/D0 (io), 94 XTAL (in), 95 MD3 (in), 96 EXTAL (in), 97 MD2 (in), 98 NMI (in), 100 PA16/~{AUDSYNC} (io), 101 PA17/~{WAIT} (io), 102 MD1 (in), 103 MD0 (in), 105 PLLCAP, 107 PA15/CK (io), 108 ~{RES} (in), 109 PE0/TIOC0A/~{DREQ0}/AUDCK (io), 110 PE1/TIOC0B/DRAK0/AUDMD (io), 111 PE2/TIOC0C/~{DREQ1}/~{AUDRST} (io), 113 PE3/TIOC0D/DRAK1/AUDATA3 (io), 114 PE4/TIOC1A/RXD3/AUDATA2 (io), 115 PE5/TIOC1B/TXD3/AUDATA1 (io), 116 PE6/TIOC2A/SCK3/AUDATA0 (io), 118 PF0/AN0 (io), 119 PF1/AN1 (io), 120 PF2/AN2 (io), 121 PF3/AN3 (io), 122 PF4/AN4 (io), 123 PF5/AN5 (io), 125 PF6/AN6 (io), 126 PF7/AN7 (io), 127 AVREF (in), 130 PA0/RXD0 (io), 131 PA1/TXD0 (io), 132 PA2/SCK0/~{DREQ0}/~{IRQ0} (io), 133 PA3/RXD1 (io), 134 PA4/TXD1 (io), 136 PA5/SCK1/~{DREQ1}/~{IRQ1} (io), 137 PE7/TIOC2B/RXD2 (io), 138 PE8/TIOC3A/SCK2/TMS (io), 139 PE9/TIOC3B/~{TRST}/SCK3 (io), 140 PE10/TIOC3C/TXD2/TDI (io), 142 PE11/TIOC3D/TDO/RXD3 (io), 143 PE12/TIOC4A/TCK/TXD3 (io), 144 PE13/TIOC4B/~{MRES} (io)
part B pins: 12 VCC (power), 26 VCC (power), 40 VCC (power), 63 VCC (power), 77 VCC (power), 85 VCC (power), 99 VCC(FWP) (power), 104 PLLVCC (power), 112 VCC (power), 128 AVCC (power), 135 VCC (power)
part C pins: 6 VSS (power), 14 VSS (power), 28 VSS (power), 42 VSS(DBGMD) (power), 55 VSS (power), 61 VSS (power), 71 VSS (power), 79 VSS (power), 87 VSS (power), 93 VSS (power), 106 PLLVSS (power), 117 VSS (power), 124 AVSS (power), 129 VSS (power), 141 VSS (power)

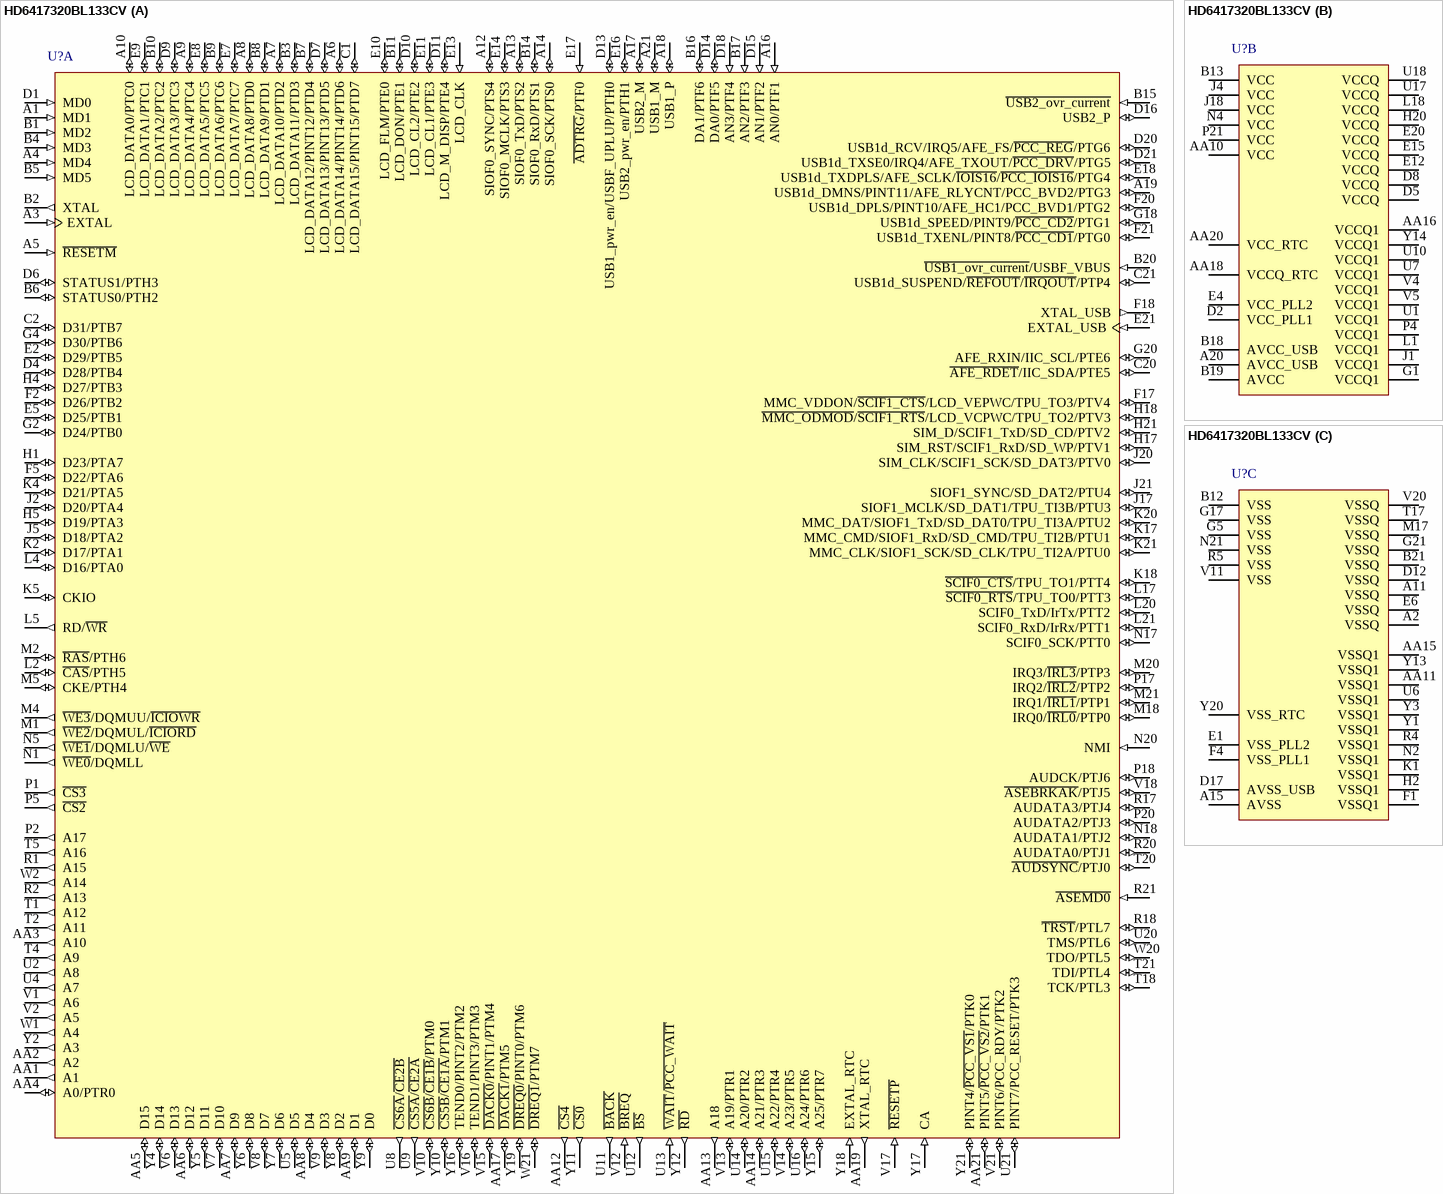
[diagram p11: symbol HD6417320BL133CV]

## HD6417320BL133CV
designator U?
32-Bit RISC Microcomputer, SH7700 Series, SH3-DSP core, 133MHz, 16K RAM, 11x11mm 256-pin CSP, -20 to 75°C; Published: 28-Aug-2009; DatasheetVersion: Rev.3.00, Jan-2008; PackageVersion: Sep-2008; PackageReference: PLBG0256KA-A; Publisher: Altium Limited; PackageDescription: 256-Ball Plastic Low Profile Fine-Pitch BGA, 11 x 11 mm Body, 0.5 mm Pitch; Code_JEITA: P-LFBGA256-11x11-0.50; ComponentLink1Description: Manufacturer Link; ComponentLink1URL: http://www.renesas.com/fmwk.jsp?cnt=sh7720_root.jsp&fp=/products/mpumcu/superh_family/sh7700_series/sh7720_group/; ComponentLink2Description: Datasheet; ComponentLink2URL: http://documentation.renesas.com/eng/products/mpumcu/rej09b0033_sh7720.pdf; ComponentLink3Description: Packaging Specification; ComponentLink3URL: http://sg.renesas.com/media/products/common_info/package/pdf/ic/code/plbg0256ka_a.pdf
footprint PLBG0256KA-A (BGA, 256-Leads, Body 11x11mm, Pitch 0.5mm)
part A pins: A1 MD1 (in) "Clock mode setting", A3 EXTAL (in) "External clock", A4 MD4 (in) "Bus width setting", A5 ~{RESETM} (in) "Manual reset", A6 LCD_DATA14/PINT14/PTD6 (io) "LCD data/port interrupt/general-purpose port", A7 LCD_DATA10/PTD2 (io) "LCD data/general-purpose port", A8 LCD_DATA8/PTD0 (io) "LCD data/general-purpose port", A9 LCD_DATA4/PTC4 (io) "LCD data/general-purpose port", A10 LCD_DATA0/PTC0 (io) "LCD data/general-purpose port", A12 SIOF0_SYNC/PTS4 (io) "SIOF frame sync/general-purpose port", A13 SIOF0_TxD/PTS2 (io) "SIOF transmit data/general-purpose port", A14 SIOF0_SCK/PTS0 (io) "SIOF serial clock/general-purpose port", A16 AN0/PTF1 (in) "ADC analog input/general-purpose port", A17 USB2_M (io) "USB D-port 2", A18 USB1_P (io) "USB D+port 1", A19 USB1d_DMNS/PINT11/AFE_RLYCNT/PCC_BVD2/PTG3 (io) "D- signal input/port interrupt/AFE on-hook control/PCC buttery detection 2/general-purpose port", A21 USB1_M (io) "USB D-port 1", AA1 A1 (out) "Address bus", AA2 A2 (out) "Address bus", AA3 A10 (out) "Address bus", AA4 A0/PTR0 (io) "Address bus/general-purpose port", AA5 D15 (io) "Data bus", AA6 D12 (io) "Data bus", AA7 D9 (io) "Data bus", AA8 D4 (io) "Data bus", AA9 D1 (io) "Data bus", AA12 ~{CS4} (out) "Chip select", AA13 A18 (out) "Address bus", AA14 A21/PTR3 (io) "Address bus/general-purpose port", AA17 ~{DACK1}/PTM5 (io) "DMA transfer request reception/general-purpose port", AA19 XTAL_RTC (out) "RTC crystal", AA21 PINT5/~{PCC_VS2}/PTK1 (io) "Port interrupt/PCC voltage detection 2/general-purpose port", B1 MD2 (in) "Clock mode setting", B2 XTAL (out) "Crystal", B3 LCD_DATA11/PTD3 (io) "LCD data/general-purpose port", B4 MD3 (in) "Bus width setting", B5 MD5 (in) "Endian setting", B6 STATUS0/PTH2 (io) "Status output/general-purpose port", B7 LCD_DATA12/PINT12/PTD4 (io) "LCD data/port interrupt/general-purpose port", B8 LCD_DATA9/PTD1 (io) "LCD data/general-purpose port", B9 LCD_DATA6/PTC6 (io) "LCD data/general-purpose port", B10 LCD_DATA2/PTC2 (io) "LCD data/general-purpose port", B11 LCD_DON/PTE1 (io) "LCD display on signal/general-purpose port", B14 SIOF0_RxD/PTS1 (io) "SIOF receive data/general-purpose port", B15 ~{USB2_ovr_current} (in) "USB2 port overcurrent", B16 DA1/PTF6 (io) "DAC analog output/general-purpose port", B17 AN2/PTF3 (in) "ADC analog input/general-purpose port", B20 ~{USB1_ovr_current}/USBF_VBUS (in) "USB1 overcurrent/monitor", C1 LCD_DATA15/PINT15/PTD7 (io) "LCD data/port interrupt/general-purpose port", C2 D31/PTB7 (io) "Data bus/general-purpose port", C20 ~{AFE_RDET}/IIC_SDA/PTE5 (io) "AFE ringing/IIC data I/O /general-purpose port", C21 USB1d_SUSPEND/~{REFOUT}/~{IRQOUT}/PTP4 (io) "Suspend state/bus request (refresh)/bus request (interrupt)/general-purpose port", D1 MD0 (in) "Clock mode setting", D4 D28/PTB4 (io) "Data bus/general-purpose port", D6 STATUS1/PTH3 (io) "Status output/general-purpose port", D7 LCD_DATA13/PINT13/PTD5 (io) "LCD data/port interrupt/general-purpose port", D9 LCD_DATA3/PTC3 (io) "LCD data/general-purpose port", D10 LCD_CL2/PTE2 (io) "LCD shift clock 2/general-purpose port", D11 LCD_M_DISP/PTE4 (io) "LCD current-alternating signal/general-purpose port", D13 USB1_pwr_en/USBF_UPLUP/PTH0 (io) "USB1 power-enable/pull-up control/general-purpose port", D14 DA0/PTF5 (io) "DAC analog output/general-purpose port", D15 AN1/PTF2 (in) "ADC analog input/general-purpose port", D16 USB2_P (io) "USB D+port 2", D18 AN3/PTF4 (in) "ADC analog input/general-purpose port", D20 USB1d_RCV/IRQ5/AFE_FS/~{PCC_REG}/PTG6 (io) "Receive data/interrupt/area indicate signal/AFE frame synchronization/PCC space indication/general-purpose port", D21 USB1d_TXSE0/IRQ4/AFE_TXOUT/~{PCC_DRV}/PTG5 (io) "SE0 state/interrupt/AFE serial transmission/PCC buffer control/general-purpose port", E2 D29/PTB5 (io) "Data bus/general-purpose port", E5 D25/PTB1 (io) "Data bus/general-purpose port", E7 LCD_DATA7/PTC7 (io) "LCD data/general-purpose port", E8 LCD_DATA5/PTC5 (io) "LCD data/general-purpose port", E9 LCD_DATA1/PTC1 (io) "LCD data/general-purpose port", E10 LCD_FLM/PTE0 (io) "LCD line marker/general-purpose port", E11 LCD_CL1/PTE3 (io) "LCD shift clock 1/general-purpose port", E13 LCD_CLK (in) "LCD clock source", E14 SIOF0_MCLK/PTS3 (io) "SIOF master clock/general-purpose port", E16 USB2_pwr_en/PTH1 (io) "USB2 power-enable/general-purpose port", E17 ~{ADTRG}/PTF0 (in) "ADC external trigger/general-purpose port", E18 USB1d_TXDPLS/AFE_SCLK/~{IOIS16}/~{PCC_IOIS16}/PTG4 (io) "D+transmit output/AFE shift clock/16-bit IO/PCCI 6-bit IO/general-purpose port", E21 EXTAL_USB (in) "USB external clock", F2 D26/PTB2 (io) "Data bus/general-purpose port", F5 D22/PTA6 (io) "Data bus/general-purpose port", F17 MMC_VDDON/~{SCIF1_CTS}/LCD_VEPWC/TPU_TO3/PTV4 (io) "MMC card power supply control/SCIF transmit enable/LCD power supply control/TPU compare-match output/general-purpose port", F18 XTAL_USB (out) "USB crystal", F20 USB1d_DPLS/PINT10/AFE_HC1/PCC_BVD1/PTG2 (io) "D+ transmit input/port interrupt/AFE hardware control/PCC battery detection 1/general-purpose port", F21 USB1d_TXENL/PINT8/~{PCC_CD1}/PTG0 (io) "Driver output enable/port interrupt/PCC card detection 1/general-purpose port", G2 D24/PTB0 (io) "Data bus/general-purpose port", G4 D30/PTB6 (io) "Data bus/general-purpose port", G18 USB1d_SPEED/PINT9/~{PCC_CD2}/PTG1 (io) "Speed control/port interrupt/PCC card detection 2/general-purpose port", G20 AFE_RXIN/IIC_SCL/PTE6 (io) "AFE serial receive/IIC clock/general-purpose port", H1 D23/PTA7 (io) "Data bus/general-purpose port", H4 D27/PTB3 (io) "Data bus/general-purpose port", H5 D19/PTA3 (io) "Data bus/general-purpose port", H17 SIM_RST/SCIF1_RxD/SD_WP/PTV1 (io) "SIM reset/SCIF receive data/SD write protect/general-purpose port", H18 ~{MMC_ODMOD}/~{SCIF1_RTS}/LCD_VCPWC/TPU_TO2/PTV3 (io) "MMC open drain control/SCIF transmit request/LCD power supply control/TPU compare-match output/general-purpose port", H21 SIM_D/SCIF1_TxD/SD_CD/PTV2 (io) "SIM data/SCIF transmit data/SD card detection/general-purpose port", J2 D20/PTA4 (io) "Data bus/general-purpose port", J5 D18/PTA2 (io) "Data bus/general-purpose port", J17 SIOF1_MCLK/SD_DAT1/TPU_TI3B/PTU3 (io) "SIOF master clock/SD data/TPU clock input/general-purpose port", J20 SIM_CLK/SCIF1_SCK/SD_DAT3/PTV0 (io) "SIM clock/SCIF serial clock/SD data/general-purpose port", J21 SIOF1_SYNC/SD_DAT2/PTU4 (io) "SIOF frame sync/SD data/general-purpose port", K2 D17/PTA1 (io) "Data bus/general-purpose port", K4 D21/PTA5 (io) "Data bus/general-purpose port", K5 CKIO (io) "System clock", K17 MMC_CMD/SIOF1_RxD/SD_CMD/TPU_TI2B/PTU1 (io) "MMC command/SIOF receive data/SD command/TPU clock input/general-purpose port", K18 ~{SCIF0_CTS}/TPU_TO1/PTT4 (io) "SCIF transmit enable/TPU compare-match output/general-purpose port", K20 MMC_DAT/SIOF1_TxD/SD_DAT0/TPU_TI3A/PTU2 (io) "MMC data/SIOF transmit data/SD data/TPU clock input/general-purpose port", K21 MMC_CLK/SIOF1_SCK/SD_CLK/TPU_TI2A/PTU0 (io) "MMC clock/SIOF serial clock/SD clock/TPU clock input/general-purpose port", L2 ~{CAS}/PTH5 (io) "Column address/general-purpose port", L4 D16/PTA0 (io) "Data bus/general-purpose port", L5 RD/~{WR} (out) "Read/write signal", L17 ~{SCIF0_RTS}/TPU_TO0/PTT3 (io) "SCIF transmit request/TPU compare-match output/general-purpose port", L20 SCIF0_TxD/IrTx/PTT2 (io) "SCIF transmit data/IrDA transmit data/general-purpose port", L21 SCIF0_RxD/IrRx/PTT1 (io) "SCIF receive data/IrDA receive data/general-purpose port", M1 ~{WE2}/DQMUL/~{ICIORD} (out) "Second-highest-byte write/DQ mask UL/IO read", M2 ~{RAS}/PTH6 (io) "Row address/general-purpose port O/IO", M4 ~{WE3}/DQMUU/~{ICIOWR} (out) "Highest-byte write/DQ mask UU/IO write", M5 CKE/PTH4 (io) "Clock enable/general-purpose port O/IO", M18 IRQ0/~{IRL0}/PTP0 (io) "Interrupt/interrupt/general-purpose port", M20 IRQ3/~{IRL3}/PTP3 (io) "Interrupt/interrupt/general-purpose port", M21 IRQ1/~{IRL1}/PTP1 (io) "Interrupt/interrupt/general-purpose port", N1 ~{WE0}/DQMLL (out) "Lowest-byte write/DQ mask LL", N5 ~{WE1}/DQMLU/~{WE} (out) "Second-lowest-byte write/DQ mask LU/write enable", N17 SCIF0_SCK/PTT0 (io) "SCIF serial clock/general-purpose port", N18 AUDATA1/PTJ2 (io) "AUD data/general-purpose port", N20 NMI (in) "NMI interrupt", P1 ~{CS3} (out) "Chip select", P2 A17 (out) "Address bus", P5 ~{CS2} (out) "Chip select", P17 IRQ2/~{IRL2}/PTP2 (io) "Interrupt/interrupt/general-purpose port", P18 AUDCK/PTJ6 (io) "AUD clock/general-purpose port", P20 AUDATA2/PTJ3 (io) "AUD data/general-purpose port", R1 A15 (out) "Address bus", R2 A13 (out) "Address bus", R17 AUDATA3/PTJ4 (io) "AUD data/general-purpose port", R18 ~{TRST}/PTL7 (io) "Test reset/general-purpose port", R20 AUDATA0/PTJ1 (io) "AUD data/general-purpose port", R21 ~{ASEMD0} (in) "ASE mode", T1 A12 (out) "Address bus", T2 A11 (out) "Address bus", T4 A9 (out) "Address bus", T5 A16 (out) "Address bus", T18 TCK/PTL3 (io) "Test clock/general-purpose port", T20 ~{AUDSYNC}/PTJ0 (io) "AUD synchronous signal/general-purpose port", T21 TDI/PTL4 (io) "Test data input/general-purpose port", U2 A8 (out) "Address bus", U4 A7 (out) "Address bus", U5 D5 (io) "Data bus", U8 ~{CS6A}/~{CE2B} (out) "Chip select/chip select", U9 ~{CS5A}/~{CE2A} (out) "Chip select/chip select", U11 ~{BACK} (out) "Bus request acknowledge", U12 ~{BS} (out) "Bus start", U13 ~{WAIT}/~{PCC_WAIT} (in) "Wait/PCC wait", U14 A20/PTR2 (io) "Address bus/general-purpose port", U15 A22/PTR4 (io) "Address bus/general-purpose port", U16 A24/PTR6 (io) "Address bus/general-purpose port", U20 TMS/PTL6 (io) "Test mode select/general-purpose port", U21 PINT7/PCC_RESET/PTK3 (io) "Port interrupt/PCC reset/general-purpose port", V1 A6 (out) "Address bus", V2 A5 (out) "Address bus", V6 D13 (io) "Data bus", V7 D10 (io) "Data bus", V8 D7 (io) "Data bus", V9 D3 (io) "Data bus", V10 ~{CS6B}/~{CE1B}/PTM0 (io) "Chip select/chip select/general-purpose port", V12 ~{BREQ} (in) "Bus request", V13 A19/PTR1 (io) "Address bus/general-purpose port", V14 A23/PTR5 (io) "Address bus/general-purpose port", V15 ~{DACK0}/PINT1/PTM4 (io) "DMA transfer request reception/port interrupt/general-purpose port", V16 TEND1/PINT3/PTM3 (io) "DMA transfer end/port interrupt/general-purpose port", V17 ~{RESETP} (in) "Power-on reset", V18 ~{ASEBRKAK}/PTJ5 (io) "ASE break mode acknowledge/general-purpose port", V21 PINT6/PCC_RDY/PTK2 (io) "Port interrupt/PCC ready/general-purpose port", W1 A4 (out) "Address bus", W2 A14 (out) "Address bus", W20 TDO/PTL5 (io) "Test data output/general-purpose port", W21 ~{DREQ1}/PTM7 (io) "DMA transfer request/general-purpose port", Y2 A3 (out) "Address bus", Y4 D14 (io) "Data bus", Y5 D11 (io) "Data bus", Y6 D8 (io) "Data bus", Y7 D6 (io) "Data bus", Y8 D2 (io) "Data bus", Y9 D0 (io) "Data bus", Y10 ~{CS5B}/~{CE1A}/PTM1 (io) "Chip select/chip select/general-purpose port", Y11 ~{CS0} (out) "Chip select", Y12 ~{RD} (out) "Read strobe", Y15 A25/PTR7 (io) "Address bus/general-purpose port", Y16 TEND0/PINT2/PTM2 (io) "DMA transfer end/port interrupt/general-purpose port", Y17 CA (in) "Chip active", Y18 EXTAL_RTC (in) "RTC external clock", Y19 ~{DREQ0}/PINT0/PTM6 (io) "DMA transfer request/port interrupt/general-purpose port", Y21 PINT4/~{PCC_VS1}/PTK0 (io) "Port interrupt/PCC voltage detection 1/general-purpose port"
part B pins: A20 AVCC_USB (power) "USB power supply (3.3V)", AA10 VCC (power) "Internal power supply (1.5V)", AA16 VCCQ1 (power) "I/O power supply (1.8/3.3V)", AA18 VCCQ_RTC (power) "RTC power supply (3.3V)", AA20 VCC_RTC (power) "RTC power supply (1.5V)", B13 VCC (power) "Internal power supply (1.5V)", B18 AVCC_USB (power) "USB power supply (3.3V)", B19 AVCC (power) "Analog power supply (3.3V)", D2 VCC_PLL1 (power) "PLL1 power supply (1.5V)", D5 VCCQ (power) "I/O power supply (3.3V)", D8 VCCQ (power) "I/O power supply (3.3V)", E4 VCC_PLL2 (power) "PLL2 power supply (1.5V)", E12 VCCQ (power) "I/O power supply (3.3V)", E15 VCCQ (power) "I/O power supply (3.3V)", E20 VCCQ (power) "I/O power supply (3.3V)", G1 VCCQ1 (power) "I/O power supply (1.8/3.3V)", H20 VCCQ (power) "I/O power supply (3.3V)", J1 VCCQ1 (power) "I/O power supply (1.8/3.3V)", J4 VCC (power) "Internal power supply (1.5V)", J18 VCC (power) "Power-supply (1.5V)", L1 VCCQ1 (power) "I/O power supply (1.8/3.3V)", L18 VCCQ (power) "I/O power supply (3.3V)", N4 VCC (power) "Power-supply (1.5V)", P4 VCCQ1 (power) "I/O power supply (1.8/3.3V)", P21 VCC (power) "Internal power supply (1.5V)", U1 VCCQ1 (power) "I/O power supply (1.8/3.3V)", U7 VCCQ1 (power) "I/O power supply (1.8/3.3V)", U10 VCCQ1 (power) "I/O power supply (1.8/3.3V)", U17 VCCQ (power) "I/O power supply (3.3V)", U18 VCCQ (power) "I/O power supply (3.3V)", V4 VCCQ1 (power) "I/O power supply (1.8/3.3V)", V5 VCCQ1 (power) "I/O power supply (1.8/3.3V)", Y14 VCCQ1 (power) "I/O power supply (1.8/3.3V)"
part C pins: A2 VSSQ (power) "I/O power supply (0V)", A11 VSSQ (power) "I/O power supply (0V)", A15 AVSS (power) "Analog power supply (0V)", AA11 VSSQ1 (power) "I/O power supply (0V)", AA15 VSSQ1 (power) "I/O power supply (0V)", B12 VSS (power) "Internal power supply (0V)", B21 VSSQ (power) "I/O power supply (0V)", D12 VSSQ (power) "I/O power supply (0V)", D17 AVSS_USB (power) "USB power supply (0V)", E1 VSS_PLL2 (power) "PLL2 power supply (0V)", E6 VSSQ (power) "I/O power supply (0V)", F1 VSSQ1 (power) "I/O power supply (0V)", F4 VSS_PLL1 (power) "PLL1 power supply (0V)", G5 VSS (power) "Power-supply (0V)", G17 VSS (power) "Internal power supply (0V)", G21 VSSQ (power) "I/O power supply (0V)", H2 VSSQ1 (power) "I/O power supply (0V)", K1 VSSQ1 (power) "I/O power supply (0V)", M17 VSSQ (power) "I/O power supply (0V)", N2 VSSQ1 (power) "I/O power supply (0V)", N21 VSS (power) "Power-supply (0V)", R4 VSSQ1 (power) "I/O power supply (0V)", R5 VSS (power) "Internal power supply (0V)", T17 VSSQ (power) "I/O power supply (0V)", U6 VSSQ1 (power) "I/O power supply (0V)", V11 VSS (power) "Internal power supply (0V)", V20 VSSQ (power) "I/O power supply (0V)", Y1 VSSQ1 (power) "I/O power supply (0V)", Y3 VSSQ1 (power) "I/O power supply (0V)", Y13 VSSQ1 (power) "I/O power supply (0V)", Y20 VSS_RTC (power) "RTC power supply (0V)"

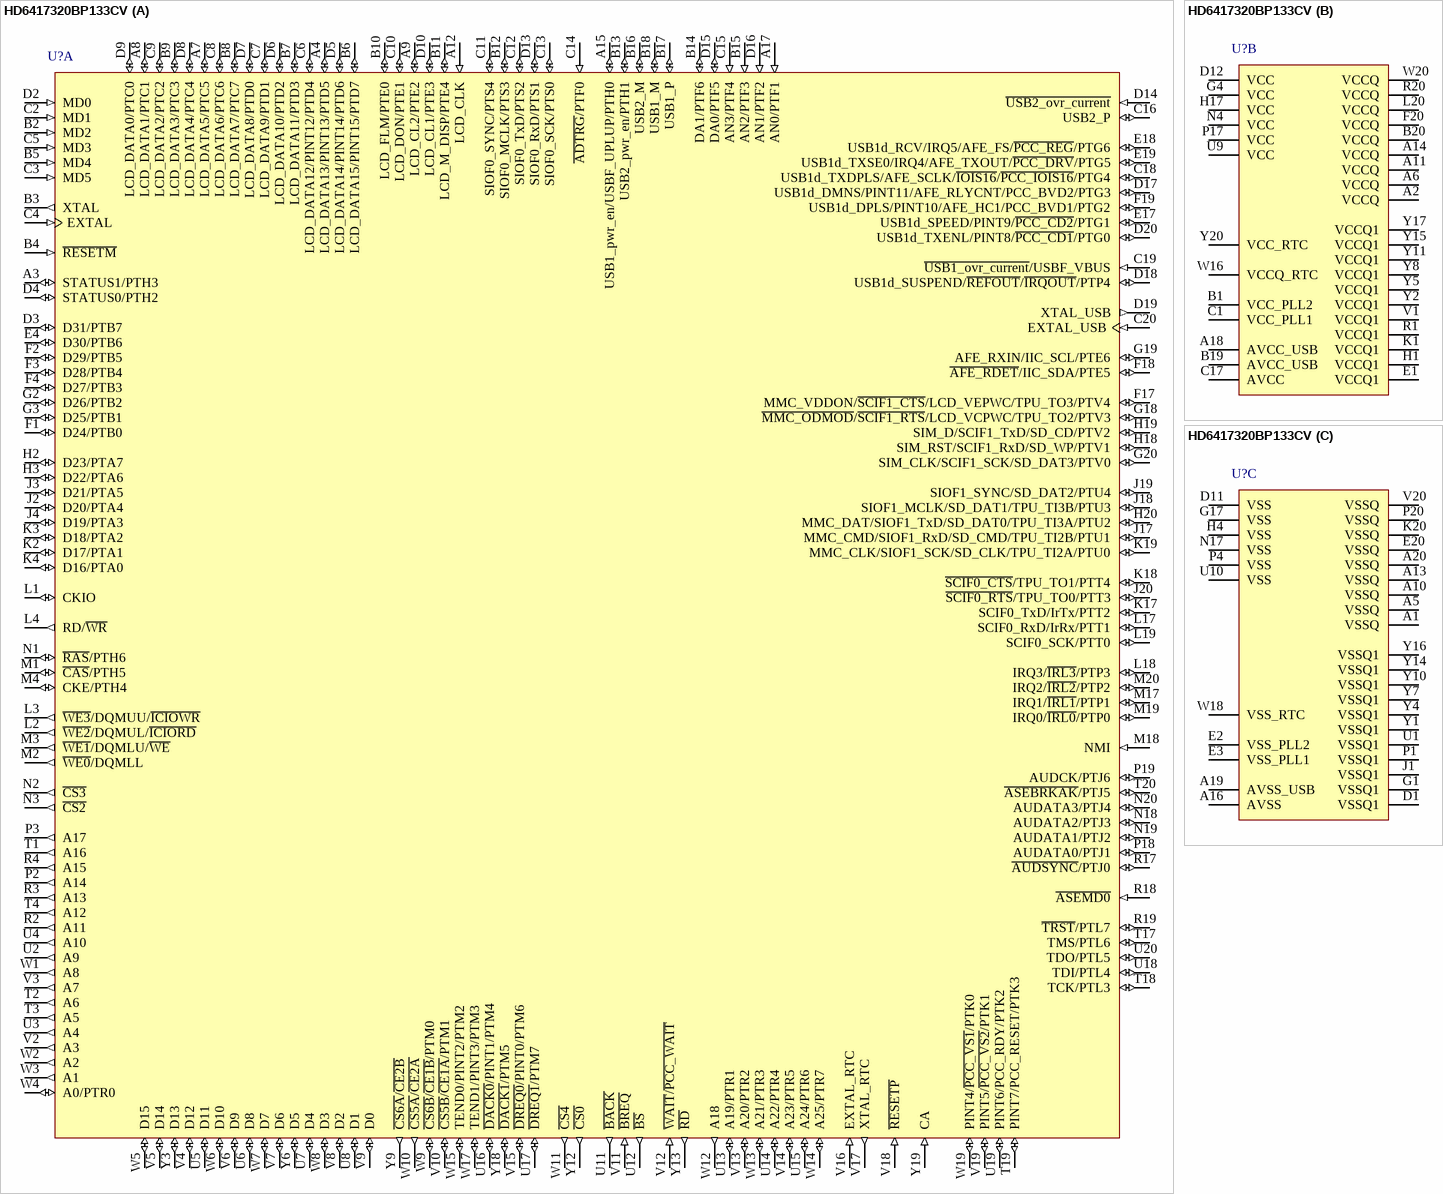
[diagram p12: symbol HD6417320BP133CV]